# Altium integrated library Renesas Microprocessor SuperH.IntLib: 433 symbols (part 39 of 62)
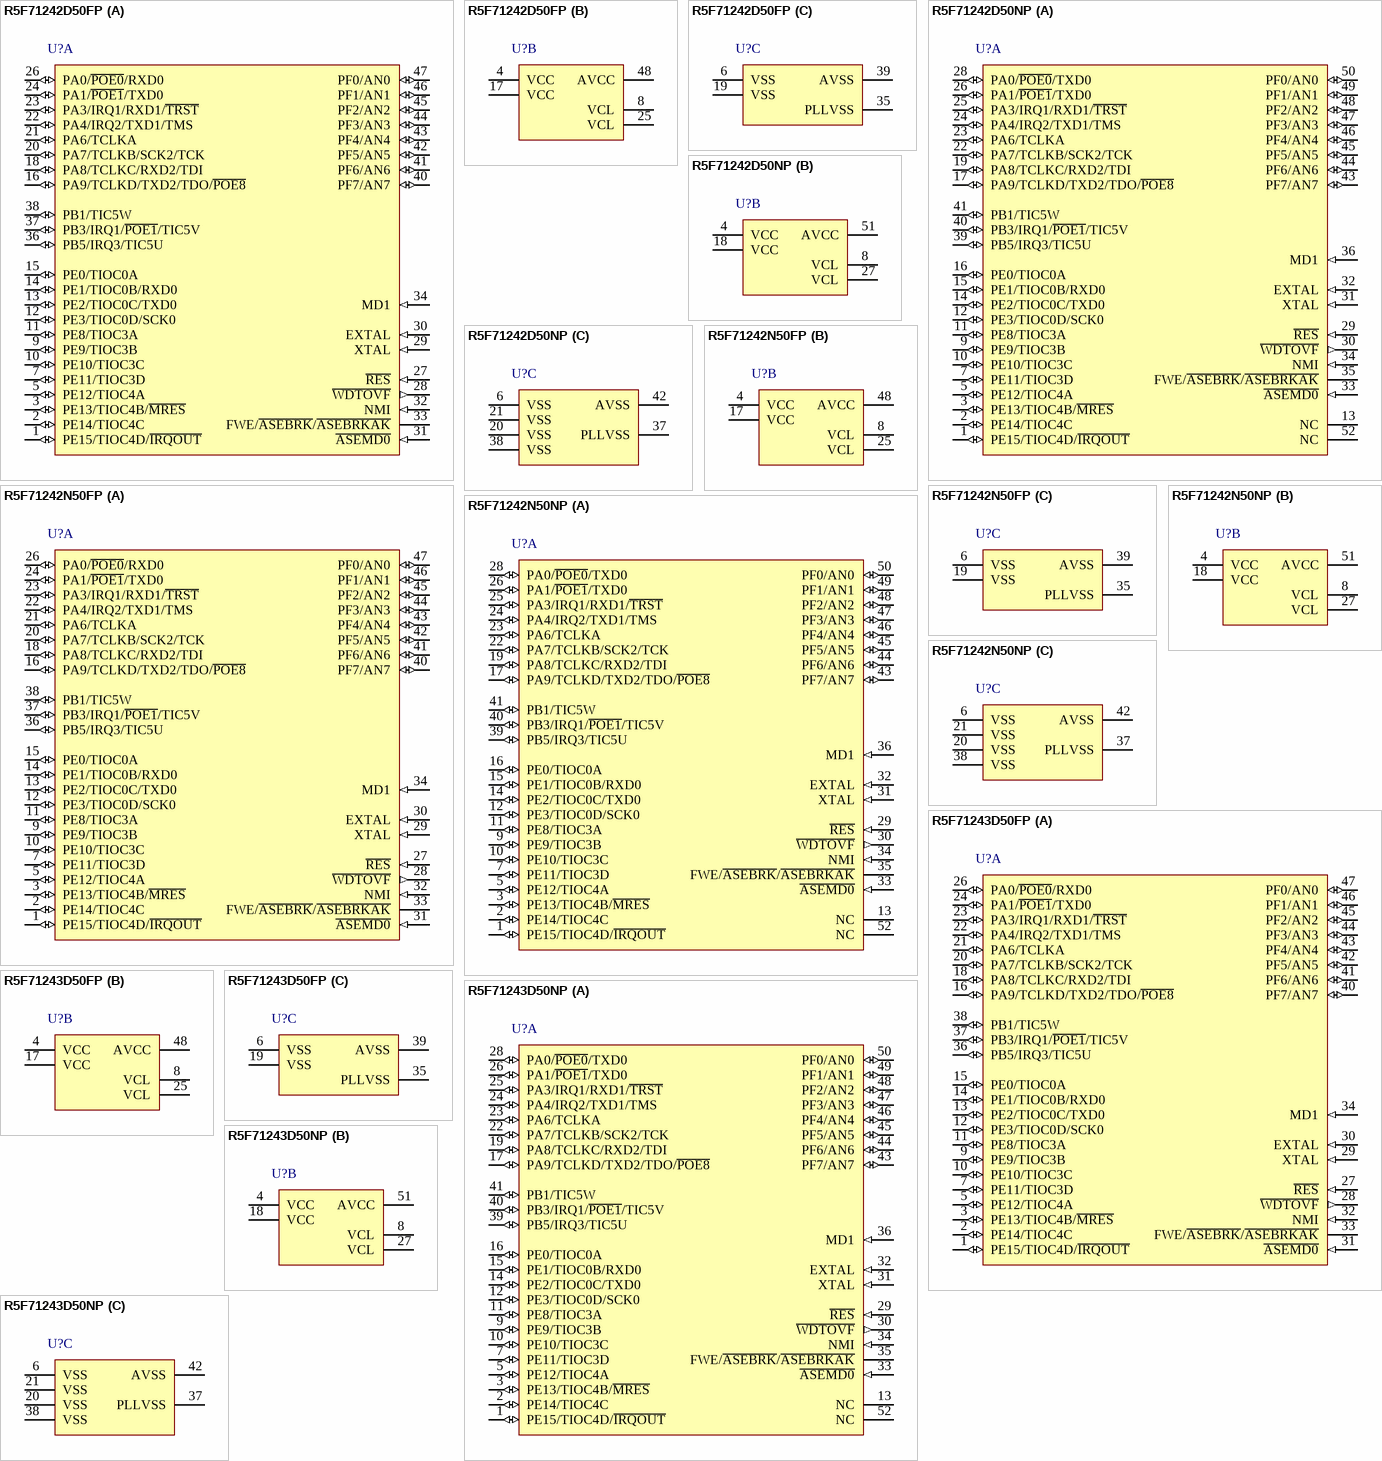
[diagram p305: symbols R5F71242D50FP to R5F71243D50NP]

## R5F71242D50NP
designator U?
32-Bit RISC Microcomputer, SH7125 Series, SH-2 core, 50MHz, 64K ROM, 8K RAM, PVQN0052LE-A Package, -40 to 85°C; Published: 28-Aug-2009; DatasheetVersion: Rev.5.00, Mar-2009; PackageVersion: Jun-2008; PackageReference: PVQN0052LE-A; Publisher: Altium Limited; PackageDescription: 52-Pin Plastic Very Thin QFN, 7 x 7 x 0.89 mm Body, 0.4 mm Pitch; Code_JEITA: P-VQFN52-7x7-0.40; ComponentLink1Description: Manufacturer Link; ComponentLink1URL: http://www.renesas.com/fmwk.jsp?cnt=sh7125_root.jsp&fp=/products/mpumcu/superh_family/shtiny_series/sh7125_group/; ComponentLink2Description: Datasheet; ComponentLink2URL: http://documentation.renesas.com/eng/products/mpumcu/rej09b0243_sh7125_7124hm.pdf; ComponentLink3Description: Packaging Specification; ComponentLink3URL: http://sg.renesas.com/media/products/common_info/package/pdf/ic/code/pvqn0052le_a.pdf
footprint PVQN0052LE-A_N (QFN, 52-Leads, Body 7x7 mm, Pitch 0.4mm, IPC Medium Density)
footprint PVQN0052LE-A_L (QFN, 52-Leads, Body 7x7 mm, Pitch 0.4mm, IPC High Density)
footprint PVQN0052LE-A_M (QFN, 52-Leads, Body 7x7 mm, Pitch 0.4mm, IPC Low Density)
part A pins: 1 PE15/TIOC4D/~{IRQOUT} (io), 2 PE14/TIOC4C (io), 3 PE13/TIOC4B/~{MRES} (io), 5 PE12/TIOC4A (io), 7 PE11/TIOC3D (io), 9 PE9/TIOC3B (io), 10 PE10/TIOC3C (io), 11 PE8/TIOC3A (io), 12 PE3/TIOC0D/SCK0 (io), 13 NC, 14 PE2/TIOC0C/TXD0 (io), 15 PE1/TIOC0B/RXD0 (io), 16 PE0/TIOC0A (io), 17 PA9/TCLKD/TXD2/TDO/~{POE8} (io), 19 PA8/TCLKC/RXD2/TDI (io), 22 PA7/TCLKB/SCK2/TCK (io), 23 PA6/TCLKA (io), 24 PA4/IRQ2/TXD1/TMS (io), 25 PA3/IRQ1/RXD1/~{TRST} (io), 26 PA1/~{POE1}/TXD0 (io), 28 PA0/~{POE0}/TXD0 (io), 29 ~{RES} (in), 30 ~{WDTOVF} (out), 31 XTAL (in), 32 EXTAL (in), 33 ~{ASEMD0} (in), 34 NMI (in), 35 FWE/~{ASEBRK}/~{ASEBRKAK}, 36 MD1 (in), 39 PB5/IRQ3/TIC5U (io), 40 PB3/IRQ1/~{POE1}/TIC5V (io), 41 PB1/TIC5W (io), 43 PF7/AN7 (io), 44 PF6/AN6 (io), 45 PF5/AN5 (io), 46 PF4/AN4 (io), 47 PF3/AN3 (io), 48 PF2/AN2 (io), 49 PF1/AN1 (io), 50 PF0/AN0 (io), 52 NC
part B pins: 4 VCC (power), 8 VCL, 18 VCC (power), 27 VCL, 51 AVCC (power)
part C pins: 6 VSS (power), 20 VSS (power), 21 VSS (power), 37 PLLVSS (power), 38 VSS (power), 42 AVSS (power)

## R5F71242N50FP
designator U?
32-Bit RISC Microcomputer, SH7125 Series, SH-2 core, 50MHz, 64K ROM, 8K RAM, PLQP0048JA-A (FP-48F) Package, -20 to 85°C; Published: 28-Aug-2009; DatasheetVersion: Rev.5.00, Mar-2009; PackageVersion: Sep-2005; PackageReference: PLQP0048JA-A; Publisher: Altium Limited; PackageDescription: 48-Pin Plastic Low Profile QFP, 10 x 10 x 1.45 mm Body, 0.65 mm Pitch; Code_JEITA: P-LQFP48-10x10-0.65; ComponentLink1Description: Manufacturer Link; ComponentLink1URL: http://www.renesas.com/fmwk.jsp?cnt=sh7125_root.jsp&fp=/products/mpumcu/superh_family/shtiny_series/sh7125_group/; ComponentLink2Description: Datasheet; ComponentLink2URL: http://documentation.renesas.com/eng/products/mpumcu/rej09b0243_sh7125_7124hm.pdf; ComponentLink3Description: Packaging Specification; ComponentLink3URL: http://sg.renesas.com/media/products/common_info/package/pdf/ic/code/plqp0048ja_a.pdf
footprint PLQP0048JA-A_N (QFP, 48-Leads, Body 10x10mm, Pitch 0.65mm, IPC Medium Density)
footprint PLQP0048JA-A_L (QFP, 48-Leads, Body 10x10mm, Pitch 0.65mm, IPC High Density)
footprint PLQP0048JA-A_M (QFP, 48-Leads, Body 10x10mm, Pitch 0.65mm, IPC Low Density)
part A pins: 1 PE15/TIOC4D/~{IRQOUT} (io), 2 PE14/TIOC4C (io), 3 PE13/TIOC4B/~{MRES} (io), 5 PE12/TIOC4A (io), 7 PE11/TIOC3D (io), 9 PE9/TIOC3B (io), 10 PE10/TIOC3C (io), 11 PE8/TIOC3A (io), 12 PE3/TIOC0D/SCK0 (io), 13 PE2/TIOC0C/TXD0 (io), 14 PE1/TIOC0B/RXD0 (io), 15 PE0/TIOC0A (io), 16 PA9/TCLKD/TXD2/TDO/~{POE8} (io), 18 PA8/TCLKC/RXD2/TDI (io), 20 PA7/TCLKB/SCK2/TCK (io), 21 PA6/TCLKA (io), 22 PA4/IRQ2/TXD1/TMS (io), 23 PA3/IRQ1/RXD1/~{TRST} (io), 24 PA1/~{POE1}/TXD0 (io), 26 PA0/~{POE0}/RXD0 (io), 27 ~{RES} (in), 28 ~{WDTOVF} (out), 29 XTAL (in), 30 EXTAL (in), 31 ~{ASEMD0} (in), 32 NMI (in), 33 FWE/~{ASEBRK}/~{ASEBRKAK}, 34 MD1 (in), 36 PB5/IRQ3/TIC5U (io), 37 PB3/IRQ1/~{POE1}/TIC5V (io), 38 PB1/TIC5W (io), 40 PF7/AN7 (io), 41 PF6/AN6 (io), 42 PF5/AN5 (io), 43 PF4/AN4 (io), 44 PF3/AN3 (io), 45 PF2/AN2 (io), 46 PF1/AN1 (io), 47 PF0/AN0 (io)
part B pins: 4 VCC (power), 8 VCL, 17 VCC (power), 25 VCL, 48 AVCC (power)
part C pins: 6 VSS (power), 19 VSS (power), 35 PLLVSS (power), 39 AVSS (power)

## R5F71242N50NP
designator U?
32-Bit RISC Microcomputer, SH7125 Series, SH-2 core, 50MHz, 64K ROM, 8K RAM, PVQN0052LE-A Package, -20 to 85°C; Published: 28-Aug-2009; DatasheetVersion: Rev.5.00, Mar-2009; PackageVersion: Jun-2008; PackageReference: PVQN0052LE-A; Publisher: Altium Limited; PackageDescription: 52-Pin Plastic Very Thin QFN, 7 x 7 x 0.89 mm Body, 0.4 mm Pitch; Code_JEITA: P-VQFN52-7x7-0.40; ComponentLink1Description: Manufacturer Link; ComponentLink1URL: http://www.renesas.com/fmwk.jsp?cnt=sh7125_root.jsp&fp=/products/mpumcu/superh_family/shtiny_series/sh7125_group/; ComponentLink2Description: Datasheet; ComponentLink2URL: http://documentation.renesas.com/eng/products/mpumcu/rej09b0243_sh7125_7124hm.pdf; ComponentLink3Description: Packaging Specification; ComponentLink3URL: http://sg.renesas.com/media/products/common_info/package/pdf/ic/code/pvqn0052le_a.pdf
footprint PVQN0052LE-A_N (QFN, 52-Leads, Body 7x7 mm, Pitch 0.4mm, IPC Medium Density)
footprint PVQN0052LE-A_L (QFN, 52-Leads, Body 7x7 mm, Pitch 0.4mm, IPC High Density)
footprint PVQN0052LE-A_M (QFN, 52-Leads, Body 7x7 mm, Pitch 0.4mm, IPC Low Density)
part A pins: 1 PE15/TIOC4D/~{IRQOUT} (io), 2 PE14/TIOC4C (io), 3 PE13/TIOC4B/~{MRES} (io), 5 PE12/TIOC4A (io), 7 PE11/TIOC3D (io), 9 PE9/TIOC3B (io), 10 PE10/TIOC3C (io), 11 PE8/TIOC3A (io), 12 PE3/TIOC0D/SCK0 (io), 13 NC, 14 PE2/TIOC0C/TXD0 (io), 15 PE1/TIOC0B/RXD0 (io), 16 PE0/TIOC0A (io), 17 PA9/TCLKD/TXD2/TDO/~{POE8} (io), 19 PA8/TCLKC/RXD2/TDI (io), 22 PA7/TCLKB/SCK2/TCK (io), 23 PA6/TCLKA (io), 24 PA4/IRQ2/TXD1/TMS (io), 25 PA3/IRQ1/RXD1/~{TRST} (io), 26 PA1/~{POE1}/TXD0 (io), 28 PA0/~{POE0}/TXD0 (io), 29 ~{RES} (in), 30 ~{WDTOVF} (out), 31 XTAL (in), 32 EXTAL (in), 33 ~{ASEMD0} (in), 34 NMI (in), 35 FWE/~{ASEBRK}/~{ASEBRKAK}, 36 MD1 (in), 39 PB5/IRQ3/TIC5U (io), 40 PB3/IRQ1/~{POE1}/TIC5V (io), 41 PB1/TIC5W (io), 43 PF7/AN7 (io), 44 PF6/AN6 (io), 45 PF5/AN5 (io), 46 PF4/AN4 (io), 47 PF3/AN3 (io), 48 PF2/AN2 (io), 49 PF1/AN1 (io), 50 PF0/AN0 (io), 52 NC
part B pins: 4 VCC (power), 8 VCL, 18 VCC (power), 27 VCL, 51 AVCC (power)
part C pins: 6 VSS (power), 20 VSS (power), 21 VSS (power), 37 PLLVSS (power), 38 VSS (power), 42 AVSS (power)

## R5F71243D50FP
designator U?
32-Bit RISC Microcomputer, SH7125 Series, SH-2 core, 50MHz, 128K ROM, 8K RAM, PLQP0048JA-A (FP-48F) Package, -40 to 85°C; Published: 28-Aug-2009; DatasheetVersion: Rev.5.00, Mar-2009; PackageVersion: Sep-2005; PackageReference: PLQP0048JA-A; Publisher: Altium Limited; PackageDescription: 48-Pin Plastic Low Profile QFP, 10 x 10 x 1.45 mm Body, 0.65 mm Pitch; Code_JEITA: P-LQFP48-10x10-0.65; ComponentLink1Description: Manufacturer Link; ComponentLink1URL: http://www.renesas.com/fmwk.jsp?cnt=sh7125_root.jsp&fp=/products/mpumcu/superh_family/shtiny_series/sh7125_group/; ComponentLink2Description: Datasheet; ComponentLink2URL: http://documentation.renesas.com/eng/products/mpumcu/rej09b0243_sh7125_7124hm.pdf; ComponentLink3Description: Packaging Specification; ComponentLink3URL: http://sg.renesas.com/media/products/common_info/package/pdf/ic/code/plqp0048ja_a.pdf
footprint PLQP0048JA-A_N (QFP, 48-Leads, Body 10x10mm, Pitch 0.65mm, IPC Medium Density)
footprint PLQP0048JA-A_L (QFP, 48-Leads, Body 10x10mm, Pitch 0.65mm, IPC High Density)
footprint PLQP0048JA-A_M (QFP, 48-Leads, Body 10x10mm, Pitch 0.65mm, IPC Low Density)
part A pins: 1 PE15/TIOC4D/~{IRQOUT} (io), 2 PE14/TIOC4C (io), 3 PE13/TIOC4B/~{MRES} (io), 5 PE12/TIOC4A (io), 7 PE11/TIOC3D (io), 9 PE9/TIOC3B (io), 10 PE10/TIOC3C (io), 11 PE8/TIOC3A (io), 12 PE3/TIOC0D/SCK0 (io), 13 PE2/TIOC0C/TXD0 (io), 14 PE1/TIOC0B/RXD0 (io), 15 PE0/TIOC0A (io), 16 PA9/TCLKD/TXD2/TDO/~{POE8} (io), 18 PA8/TCLKC/RXD2/TDI (io), 20 PA7/TCLKB/SCK2/TCK (io), 21 PA6/TCLKA (io), 22 PA4/IRQ2/TXD1/TMS (io), 23 PA3/IRQ1/RXD1/~{TRST} (io), 24 PA1/~{POE1}/TXD0 (io), 26 PA0/~{POE0}/RXD0 (io), 27 ~{RES} (in), 28 ~{WDTOVF} (out), 29 XTAL (in), 30 EXTAL (in), 31 ~{ASEMD0} (in), 32 NMI (in), 33 FWE/~{ASEBRK}/~{ASEBRKAK}, 34 MD1 (in), 36 PB5/IRQ3/TIC5U (io), 37 PB3/IRQ1/~{POE1}/TIC5V (io), 38 PB1/TIC5W (io), 40 PF7/AN7 (io), 41 PF6/AN6 (io), 42 PF5/AN5 (io), 43 PF4/AN4 (io), 44 PF3/AN3 (io), 45 PF2/AN2 (io), 46 PF1/AN1 (io), 47 PF0/AN0 (io)
part B pins: 4 VCC (power), 8 VCL, 17 VCC (power), 25 VCL, 48 AVCC (power)
part C pins: 6 VSS (power), 19 VSS (power), 35 PLLVSS (power), 39 AVSS (power)

## R5F71243D50NP
designator U?
32-Bit RISC Microcomputer, SH7125 Series, SH-2 core, 50MHz, 128K ROM, 8K RAM, PVQN0052LE-A Package, -40 to 85°C; Published: 28-Aug-2009; DatasheetVersion: Rev.5.00, Mar-2009; PackageVersion: Jun-2008; PackageReference: PVQN0052LE-A; Publisher: Altium Limited; PackageDescription: 52-Pin Plastic Very Thin QFN, 7 x 7 x 0.89 mm Body, 0.4 mm Pitch; Code_JEITA: P-VQFN52-7x7-0.40; ComponentLink1Description: Manufacturer Link; ComponentLink1URL: http://www.renesas.com/fmwk.jsp?cnt=sh7125_root.jsp&fp=/products/mpumcu/superh_family/shtiny_series/sh7125_group/; ComponentLink2Description: Datasheet; ComponentLink2URL: http://documentation.renesas.com/eng/products/mpumcu/rej09b0243_sh7125_7124hm.pdf; ComponentLink3Description: Packaging Specification; ComponentLink3URL: http://sg.renesas.com/media/products/common_info/package/pdf/ic/code/pvqn0052le_a.pdf
footprint PVQN0052LE-A_N (QFN, 52-Leads, Body 7x7 mm, Pitch 0.4mm, IPC Medium Density)
footprint PVQN0052LE-A_L (QFN, 52-Leads, Body 7x7 mm, Pitch 0.4mm, IPC High Density)
footprint PVQN0052LE-A_M (QFN, 52-Leads, Body 7x7 mm, Pitch 0.4mm, IPC Low Density)
part A pins: 1 PE15/TIOC4D/~{IRQOUT} (io), 2 PE14/TIOC4C (io), 3 PE13/TIOC4B/~{MRES} (io), 5 PE12/TIOC4A (io), 7 PE11/TIOC3D (io), 9 PE9/TIOC3B (io), 10 PE10/TIOC3C (io), 11 PE8/TIOC3A (io), 12 PE3/TIOC0D/SCK0 (io), 13 NC, 14 PE2/TIOC0C/TXD0 (io), 15 PE1/TIOC0B/RXD0 (io), 16 PE0/TIOC0A (io), 17 PA9/TCLKD/TXD2/TDO/~{POE8} (io), 19 PA8/TCLKC/RXD2/TDI (io), 22 PA7/TCLKB/SCK2/TCK (io), 23 PA6/TCLKA (io), 24 PA4/IRQ2/TXD1/TMS (io), 25 PA3/IRQ1/RXD1/~{TRST} (io), 26 PA1/~{POE1}/TXD0 (io), 28 PA0/~{POE0}/TXD0 (io), 29 ~{RES} (in), 30 ~{WDTOVF} (out), 31 XTAL (in), 32 EXTAL (in), 33 ~{ASEMD0} (in), 34 NMI (in), 35 FWE/~{ASEBRK}/~{ASEBRKAK}, 36 MD1 (in), 39 PB5/IRQ3/TIC5U (io), 40 PB3/IRQ1/~{POE1}/TIC5V (io), 41 PB1/TIC5W (io), 43 PF7/AN7 (io), 44 PF6/AN6 (io), 45 PF5/AN5 (io), 46 PF4/AN4 (io), 47 PF3/AN3 (io), 48 PF2/AN2 (io), 49 PF1/AN1 (io), 50 PF0/AN0 (io), 52 NC
part B pins: 4 VCC (power), 8 VCL, 18 VCC (power), 27 VCL, 51 AVCC (power)
part C pins: 6 VSS (power), 20 VSS (power), 21 VSS (power), 37 PLLVSS (power), 38 VSS (power), 42 AVSS (power)

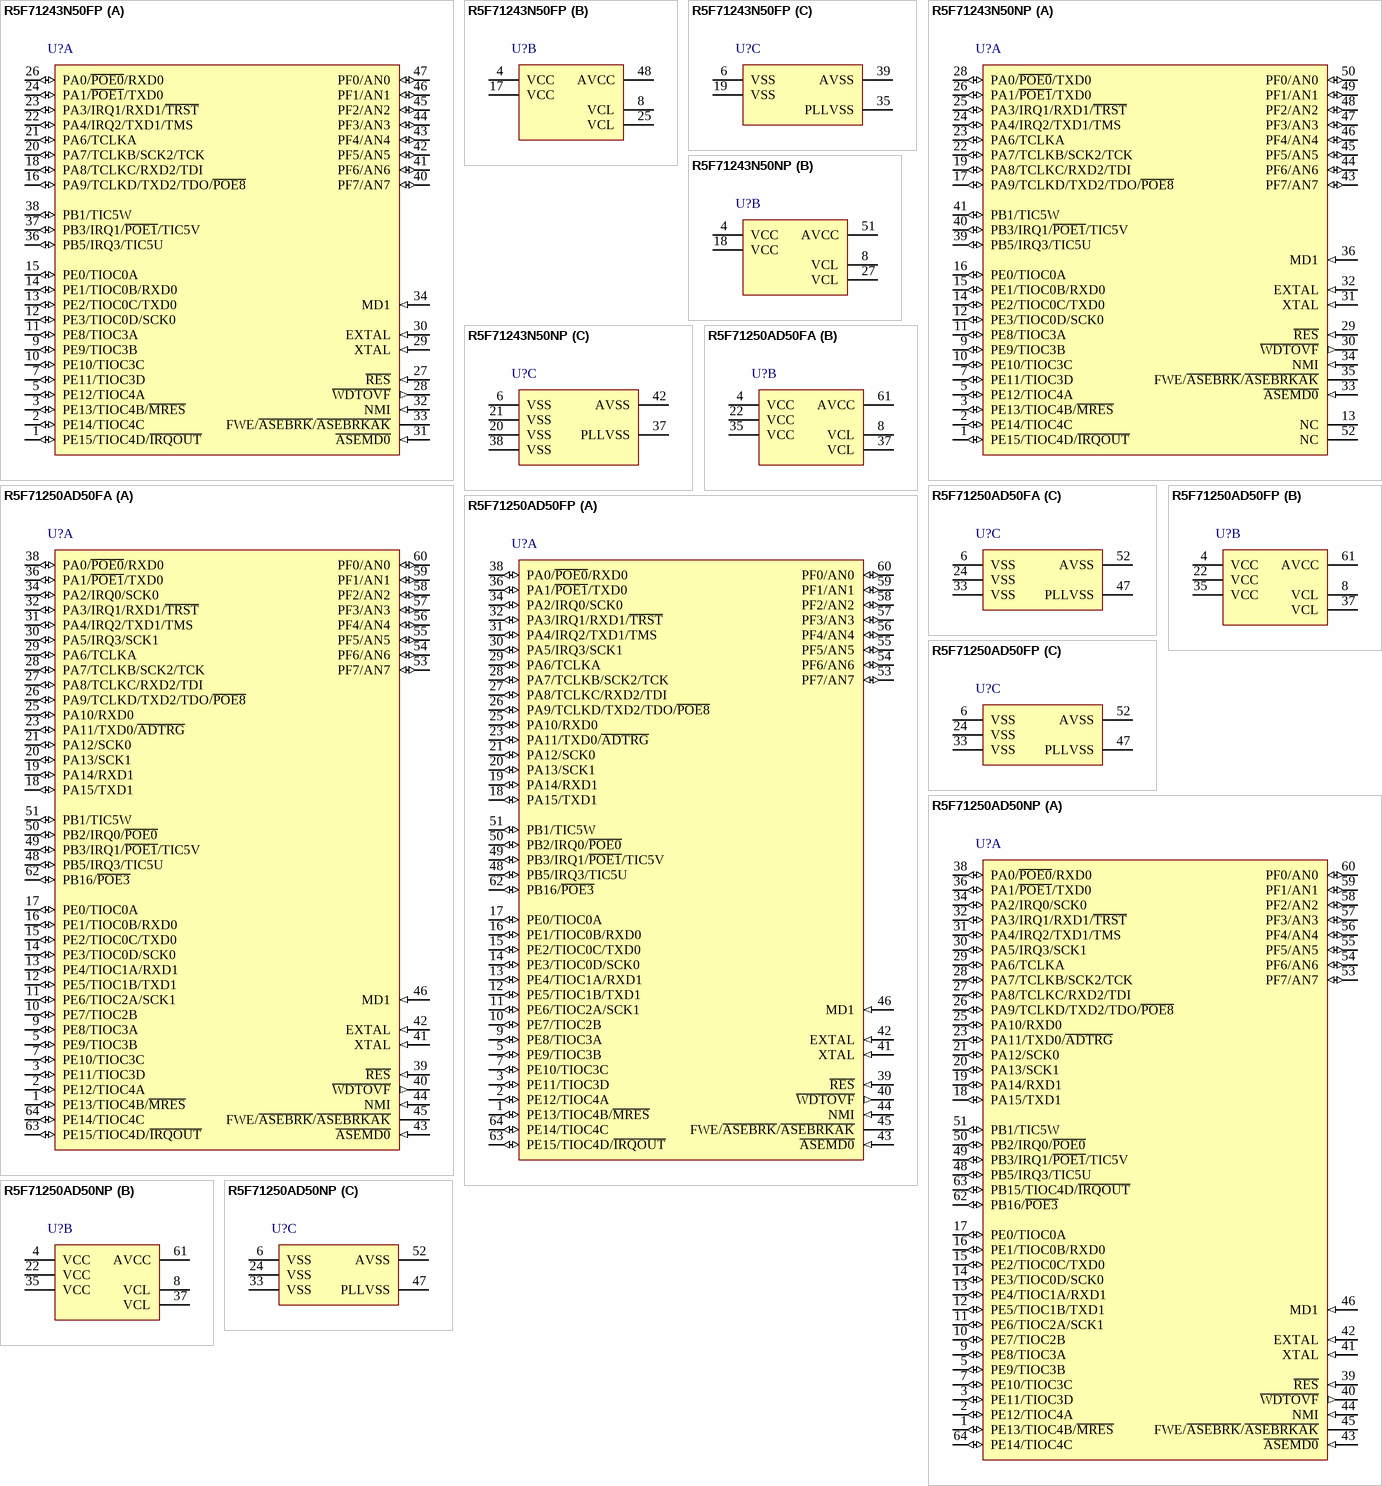
[diagram p142: symbols R5F71243N50FP to R5F71250AD50NP]

## R5F71243N50FP
designator U?
32-Bit RISC Microcomputer, SH7125 Series, SH-2 core, 50MHz, 128K ROM, 8K RAM, PLQP0048JA-A (FP-48F) Package, -20 to 85°C; Published: 28-Aug-2009; DatasheetVersion: Rev.5.00, Mar-2009; PackageVersion: Sep-2005; PackageReference: PLQP0048JA-A; Publisher: Altium Limited; PackageDescription: 48-Pin Plastic Low Profile QFP, 10 x 10 x 1.45 mm Body, 0.65 mm Pitch; Code_JEITA: P-LQFP48-10x10-0.65; ComponentLink1Description: Manufacturer Link; ComponentLink1URL: http://www.renesas.com/fmwk.jsp?cnt=sh7125_root.jsp&fp=/products/mpumcu/superh_family/shtiny_series/sh7125_group/; ComponentLink2Description: Datasheet; ComponentLink2URL: http://documentation.renesas.com/eng/products/mpumcu/rej09b0243_sh7125_7124hm.pdf; ComponentLink3Description: Packaging Specification; ComponentLink3URL: http://sg.renesas.com/media/products/common_info/package/pdf/ic/code/plqp0048ja_a.pdf
footprint PLQP0048JA-A_N (QFP, 48-Leads, Body 10x10mm, Pitch 0.65mm, IPC Medium Density)
footprint PLQP0048JA-A_L (QFP, 48-Leads, Body 10x10mm, Pitch 0.65mm, IPC High Density)
footprint PLQP0048JA-A_M (QFP, 48-Leads, Body 10x10mm, Pitch 0.65mm, IPC Low Density)
part A pins: 1 PE15/TIOC4D/~{IRQOUT} (io), 2 PE14/TIOC4C (io), 3 PE13/TIOC4B/~{MRES} (io), 5 PE12/TIOC4A (io), 7 PE11/TIOC3D (io), 9 PE9/TIOC3B (io), 10 PE10/TIOC3C (io), 11 PE8/TIOC3A (io), 12 PE3/TIOC0D/SCK0 (io), 13 PE2/TIOC0C/TXD0 (io), 14 PE1/TIOC0B/RXD0 (io), 15 PE0/TIOC0A (io), 16 PA9/TCLKD/TXD2/TDO/~{POE8} (io), 18 PA8/TCLKC/RXD2/TDI (io), 20 PA7/TCLKB/SCK2/TCK (io), 21 PA6/TCLKA (io), 22 PA4/IRQ2/TXD1/TMS (io), 23 PA3/IRQ1/RXD1/~{TRST} (io), 24 PA1/~{POE1}/TXD0 (io), 26 PA0/~{POE0}/RXD0 (io), 27 ~{RES} (in), 28 ~{WDTOVF} (out), 29 XTAL (in), 30 EXTAL (in), 31 ~{ASEMD0} (in), 32 NMI (in), 33 FWE/~{ASEBRK}/~{ASEBRKAK}, 34 MD1 (in), 36 PB5/IRQ3/TIC5U (io), 37 PB3/IRQ1/~{POE1}/TIC5V (io), 38 PB1/TIC5W (io), 40 PF7/AN7 (io), 41 PF6/AN6 (io), 42 PF5/AN5 (io), 43 PF4/AN4 (io), 44 PF3/AN3 (io), 45 PF2/AN2 (io), 46 PF1/AN1 (io), 47 PF0/AN0 (io)
part B pins: 4 VCC (power), 8 VCL, 17 VCC (power), 25 VCL, 48 AVCC (power)
part C pins: 6 VSS (power), 19 VSS (power), 35 PLLVSS (power), 39 AVSS (power)

## R5F71243N50NP
designator U?
32-Bit RISC Microcomputer, SH7125 Series, SH-2 core, 50MHz, 128K ROM, 8K RAM, PVQN0052LE-A Package, -20 to 85°C; Published: 28-Aug-2009; DatasheetVersion: Rev.5.00, Mar-2009; PackageVersion: Jun-2008; PackageReference: PVQN0052LE-A; Publisher: Altium Limited; PackageDescription: 52-Pin Plastic Very Thin QFN, 7 x 7 x 0.89 mm Body, 0.4 mm Pitch; Code_JEITA: P-VQFN52-7x7-0.40; ComponentLink1Description: Manufacturer Link; ComponentLink1URL: http://www.renesas.com/fmwk.jsp?cnt=sh7125_root.jsp&fp=/products/mpumcu/superh_family/shtiny_series/sh7125_group/; ComponentLink2Description: Datasheet; ComponentLink2URL: http://documentation.renesas.com/eng/products/mpumcu/rej09b0243_sh7125_7124hm.pdf; ComponentLink3Description: Packaging Specification; ComponentLink3URL: http://sg.renesas.com/media/products/common_info/package/pdf/ic/code/pvqn0052le_a.pdf
footprint PVQN0052LE-A_N (QFN, 52-Leads, Body 7x7 mm, Pitch 0.4mm, IPC Medium Density)
footprint PVQN0052LE-A_L (QFN, 52-Leads, Body 7x7 mm, Pitch 0.4mm, IPC High Density)
footprint PVQN0052LE-A_M (QFN, 52-Leads, Body 7x7 mm, Pitch 0.4mm, IPC Low Density)
part A pins: 1 PE15/TIOC4D/~{IRQOUT} (io), 2 PE14/TIOC4C (io), 3 PE13/TIOC4B/~{MRES} (io), 5 PE12/TIOC4A (io), 7 PE11/TIOC3D (io), 9 PE9/TIOC3B (io), 10 PE10/TIOC3C (io), 11 PE8/TIOC3A (io), 12 PE3/TIOC0D/SCK0 (io), 13 NC, 14 PE2/TIOC0C/TXD0 (io), 15 PE1/TIOC0B/RXD0 (io), 16 PE0/TIOC0A (io), 17 PA9/TCLKD/TXD2/TDO/~{POE8} (io), 19 PA8/TCLKC/RXD2/TDI (io), 22 PA7/TCLKB/SCK2/TCK (io), 23 PA6/TCLKA (io), 24 PA4/IRQ2/TXD1/TMS (io), 25 PA3/IRQ1/RXD1/~{TRST} (io), 26 PA1/~{POE1}/TXD0 (io), 28 PA0/~{POE0}/TXD0 (io), 29 ~{RES} (in), 30 ~{WDTOVF} (out), 31 XTAL (in), 32 EXTAL (in), 33 ~{ASEMD0} (in), 34 NMI (in), 35 FWE/~{ASEBRK}/~{ASEBRKAK}, 36 MD1 (in), 39 PB5/IRQ3/TIC5U (io), 40 PB3/IRQ1/~{POE1}/TIC5V (io), 41 PB1/TIC5W (io), 43 PF7/AN7 (io), 44 PF6/AN6 (io), 45 PF5/AN5 (io), 46 PF4/AN4 (io), 47 PF3/AN3 (io), 48 PF2/AN2 (io), 49 PF1/AN1 (io), 50 PF0/AN0 (io), 52 NC
part B pins: 4 VCC (power), 8 VCL, 18 VCC (power), 27 VCL, 51 AVCC (power)
part C pins: 6 VSS (power), 20 VSS (power), 21 VSS (power), 37 PLLVSS (power), 38 VSS (power), 42 AVSS (power)

## R5F71250AD50FA
designator U?
32-Bit RISC Microcomputer, SH7125 Series, SH-2 core, 50MHz, 16K ROM, 4K RAM, PRQP0064GC-A (FP-64HV) Package, -40 to 85°C; Published: 28-Aug-2009; DatasheetVersion: Rev.5.00, Mar-2009; PackageVersion: Sep-2005; PackageReference: PRQP0064GC-A; Publisher: Altium Limited; PackageDescription: 64-Pin Plastic Quad Flat Pack, 14 x 14 x 2.7 mm Body, 0.8 mm Pitch; Code_JEITA: P-QFP64-14x14-0.80; ComponentLink1Description: Manufacturer Link; ComponentLink1URL: http://www.renesas.com/fmwk.jsp?cnt=sh7125_root.jsp&fp=/products/mpumcu/superh_family/shtiny_series/sh7125_group/; ComponentLink2Description: Datasheet; ComponentLink2URL: http://documentation.renesas.com/eng/products/mpumcu/rej09b0243_sh7125_7124hm.pdf; ComponentLink3Description: Packaging Specification; ComponentLink3URL: http://sg.renesas.com/media/products/common_info/package/pdf/ic/code/prqp0064gc_a.pdf
footprint PRQP0064GC-A_N (QFP, 64-Leads, Body 14x14mm, Pitch 0.8mm, IPC Medium Density)
footprint PRQP0064GC-A_L (QFP, 64-Leads, Body 14x14mm, Pitch 0.8mm, IPC High Density)
footprint PRQP0064GC-A_M (QFP, 64-Leads, Body 14x14mm, Pitch 0.8mm, IPC Low Density)
part A pins: 1 PE13/TIOC4B/~{MRES} (io), 2 PE12/TIOC4A (io), 3 PE11/TIOC3D (io), 5 PE9/TIOC3B (io), 7 PE10/TIOC3C (io), 9 PE8/TIOC3A (io), 10 PE7/TIOC2B (io), 11 PE6/TIOC2A/SCK1 (io), 12 PE5/TIOC1B/TXD1 (io), 13 PE4/TIOC1A/RXD1 (io), 14 PE3/TIOC0D/SCK0 (io), 15 PE2/TIOC0C/TXD0 (io), 16 PE1/TIOC0B/RXD0 (io), 17 PE0/TIOC0A (io), 18 PA15/TXD1 (io), 19 PA14/RXD1 (io), 20 PA13/SCK1 (io), 21 PA12/SCK0 (io), 23 PA11/TXD0/~{ADTRG} (io), 25 PA10/RXD0 (io), 26 PA9/TCLKD/TXD2/TDO/~{POE8} (io), 27 PA8/TCLKC/RXD2/TDI (io), 28 PA7/TCLKB/SCK2/TCK (io), 29 PA6/TCLKA (io), 30 PA5/IRQ3/SCK1 (io), 31 PA4/IRQ2/TXD1/TMS (io), 32 PA3/IRQ1/RXD1/~{TRST} (io), 34 PA2/IRQ0/SCK0 (io), 36 PA1/~{POE1}/TXD0 (io), 38 PA0/~{POE0}/RXD0 (io), 39 ~{RES} (in), 40 ~{WDTOVF} (out), 41 XTAL (in), 42 EXTAL (in), 43 ~{ASEMD0} (in), 44 NMI (in), 45 FWE/~{ASEBRK}/~{ASEBRKAK}, 46 MD1 (in), 48 PB5/IRQ3/TIC5U (io), 49 PB3/IRQ1/~{POE1}/TIC5V (io), 50 PB2/IRQ0/~{POE0} (io), 51 PB1/TIC5W (io), 53 PF7/AN7 (io), 54 PF6/AN6 (io), 55 PF5/AN5 (io), 56 PF4/AN4 (io), 57 PF3/AN3 (io), 58 PF2/AN2 (io), 59 PF1/AN1 (io), 60 PF0/AN0 (io), 62 PB16/~{POE3} (io), 63 PE15/TIOC4D/~{IRQOUT} (io), 64 PE14/TIOC4C (io)
part B pins: 4 VCC (power), 8 VCL, 22 VCC (power), 35 VCC (power), 37 VCL, 61 AVCC (power)
part C pins: 6 VSS (power), 24 VSS (power), 33 VSS (power), 47 PLLVSS (power), 52 AVSS (power)

## R5F71250AD50FP
designator U?
32-Bit RISC Microcomputer, SH7125 Series, SH-2 core, 50MHz, 16K ROM, 4K RAM, PLQP0064KB-A (FP-64K) Package, -40 to 85°C; Published: 28-Aug-2009; DatasheetVersion: Rev.5.00, Mar-2009; PackageVersion: Sep-2005; PackageReference: PLQP0064KB-A; Publisher: Altium Limited; PackageDescription: 64-Pin Plastic Low Profile QFP, 10 x 10 x 1.4 mm Body, 0.5 mm Pitch; Code_JEITA: P-LQFP64-10x10-0.50; Code_IPC: SQFP50P1200X1200-64; ComponentLink1Description: Manufacturer Link; ComponentLink1URL: http://www.renesas.com/fmwk.jsp?cnt=sh7125_root.jsp&fp=/products/mpumcu/superh_family/shtiny_series/sh7125_group/; ComponentLink2Description: Datasheet; ComponentLink2URL: http://documentation.renesas.com/eng/products/mpumcu/rej09b0243_sh7125_7124hm.pdf; ComponentLink3Description: Packaging Specification; ComponentLink3URL: http://sg.renesas.com/media/products/common_info/package/pdf/ic/code/plqp0064kb_a.pdf
footprint PLQP0064KB-A_N (Shrink QFP, 64-Leads, Body 10x10mm, Pitch 0.5mm, IPC Medium Density)
footprint PLQP0064KB-A_L (Shrink QFP, 64-Leads, Body 10x10mm, Pitch 0.5mm, IPC High Density)
footprint PLQP0064KB-A_M (Shrink QFP, 64-Leads, Body 10x10mm, Pitch 0.5mm, IPC Low Density)
part A pins: 1 PE13/TIOC4B/~{MRES} (io), 2 PE12/TIOC4A (io), 3 PE11/TIOC3D (io), 5 PE9/TIOC3B (io), 7 PE10/TIOC3C (io), 9 PE8/TIOC3A (io), 10 PE7/TIOC2B (io), 11 PE6/TIOC2A/SCK1 (io), 12 PE5/TIOC1B/TXD1 (io), 13 PE4/TIOC1A/RXD1 (io), 14 PE3/TIOC0D/SCK0 (io), 15 PE2/TIOC0C/TXD0 (io), 16 PE1/TIOC0B/RXD0 (io), 17 PE0/TIOC0A (io), 18 PA15/TXD1 (io), 19 PA14/RXD1 (io), 20 PA13/SCK1 (io), 21 PA12/SCK0 (io), 23 PA11/TXD0/~{ADTRG} (io), 25 PA10/RXD0 (io), 26 PA9/TCLKD/TXD2/TDO/~{POE8} (io), 27 PA8/TCLKC/RXD2/TDI (io), 28 PA7/TCLKB/SCK2/TCK (io), 29 PA6/TCLKA (io), 30 PA5/IRQ3/SCK1 (io), 31 PA4/IRQ2/TXD1/TMS (io), 32 PA3/IRQ1/RXD1/~{TRST} (io), 34 PA2/IRQ0/SCK0 (io), 36 PA1/~{POE1}/TXD0 (io), 38 PA0/~{POE0}/RXD0 (io), 39 ~{RES} (in), 40 ~{WDTOVF} (out), 41 XTAL (in), 42 EXTAL (in), 43 ~{ASEMD0} (in), 44 NMI (in), 45 FWE/~{ASEBRK}/~{ASEBRKAK}, 46 MD1 (in), 48 PB5/IRQ3/TIC5U (io), 49 PB3/IRQ1/~{POE1}/TIC5V (io), 50 PB2/IRQ0/~{POE0} (io), 51 PB1/TIC5W (io), 53 PF7/AN7 (io), 54 PF6/AN6 (io), 55 PF5/AN5 (io), 56 PF4/AN4 (io), 57 PF3/AN3 (io), 58 PF2/AN2 (io), 59 PF1/AN1 (io), 60 PF0/AN0 (io), 62 PB16/~{POE3} (io), 63 PE15/TIOC4D/~{IRQOUT} (io), 64 PE14/TIOC4C (io)
part B pins: 4 VCC (power), 8 VCL, 22 VCC (power), 35 VCC (power), 37 VCL, 61 AVCC (power)
part C pins: 6 VSS (power), 24 VSS (power), 33 VSS (power), 47 PLLVSS (power), 52 AVSS (power)

## R5F71250AD50NP
designator U?
32-Bit RISC Microcomputer, SH7125 Series, SH-2 core, 50MHz, 16K ROM, 4K RAM, PVQN0064LB-A (TNP-64BV) Package, -40 to 85°C; Published: 28-Aug-2009; DatasheetVersion: Rev.5.00, Mar-2009; PackageVersion: Jun-2008; PackageReference: PVQN0064LB-A; Publisher: Altium Limited; PackageDescription: 64-Pin Plastic Very Thin QFN, 8 x 8 X 0.89 mm Body, 0.4 mm Pitch; Code_JEITA: P-VQFN64-8x8-0.40; ComponentLink1Description: Manufacturer Link; ComponentLink1URL: http://www.renesas.com/fmwk.jsp?cnt=sh7125_root.jsp&fp=/products/mpumcu/superh_family/shtiny_series/sh7125_group/; ComponentLink2Description: Datasheet; ComponentLink2URL: http://documentation.renesas.com/eng/products/mpumcu/rej09b0243_sh7125_7124hm.pdf; ComponentLink3Description: Packaging Specification; ComponentLink3URL: http://sg.renesas.com/media/products/common_info/package/pdf/ic/code/pvqn0064lb_a.pdf
footprint PVQN0064LB-A_N (QFN, 64-Leads, Body 8x8 mm, Pitch 0.4mm, IPC Medium Density)
footprint PVQN0064LB-A_L (QFN, 64-Leads, Body 8x8 mm, Pitch 0.4mm, IPC High Density)
footprint PVQN0064LB-A_M (QFN, 64-Leads, Body 8x8 mm, Pitch 0.4mm, IPC Low Density)
part A pins: 1 PE13/TIOC4B/~{MRES} (io), 2 PE12/TIOC4A (io), 3 PE11/TIOC3D (io), 5 PE9/TIOC3B (io), 7 PE10/TIOC3C (io), 9 PE8/TIOC3A (io), 10 PE7/TIOC2B (io), 11 PE6/TIOC2A/SCK1 (io), 12 PE5/TIOC1B/TXD1 (io), 13 PE4/TIOC1A/RXD1 (io), 14 PE3/TIOC0D/SCK0 (io), 15 PE2/TIOC0C/TXD0 (io), 16 PE1/TIOC0B/RXD0 (io), 17 PE0/TIOC0A (io), 18 PA15/TXD1 (io), 19 PA14/RXD1 (io), 20 PA13/SCK1 (io), 21 PA12/SCK0 (io), 23 PA11/TXD0/~{ADTRG} (io), 25 PA10/RXD0 (io), 26 PA9/TCLKD/TXD2/TDO/~{POE8} (io), 27 PA8/TCLKC/RXD2/TDI (io), 28 PA7/TCLKB/SCK2/TCK (io), 29 PA6/TCLKA (io), 30 PA5/IRQ3/SCK1 (io), 31 PA4/IRQ2/TXD1/TMS (io), 32 PA3/IRQ1/RXD1/~{TRST} (io), 34 PA2/IRQ0/SCK0 (io), 36 PA1/~{POE1}/TXD0 (io), 38 PA0/~{POE0}/RXD0 (io), 39 ~{RES} (in), 40 ~{WDTOVF} (out), 41 XTAL (in), 42 EXTAL (in), 43 ~{ASEMD0} (in), 44 NMI (in), 45 FWE/~{ASEBRK}/~{ASEBRKAK}, 46 MD1 (in), 48 PB5/IRQ3/TIC5U (io), 49 PB3/IRQ1/~{POE1}/TIC5V (io), 50 PB2/IRQ0/~{POE0} (io), 51 PB1/TIC5W (io), 53 PF7/AN7 (io), 54 PF6/AN6 (io), 55 PF5/AN5 (io), 56 PF4/AN4 (io), 57 PF3/AN3 (io), 58 PF2/AN2 (io), 59 PF1/AN1 (io), 60 PF0/AN0 (io), 62 PB16/~{POE3} (io), 63 PB15/TIOC4D/~{IRQOUT} (io), 64 PE14/TIOC4C (io)
part B pins: 4 VCC (power), 8 VCL, 22 VCC (power), 35 VCC (power), 37 VCL, 61 AVCC (power)
part C pins: 6 VSS (power), 24 VSS (power), 33 VSS (power), 47 PLLVSS (power), 52 AVSS (power)

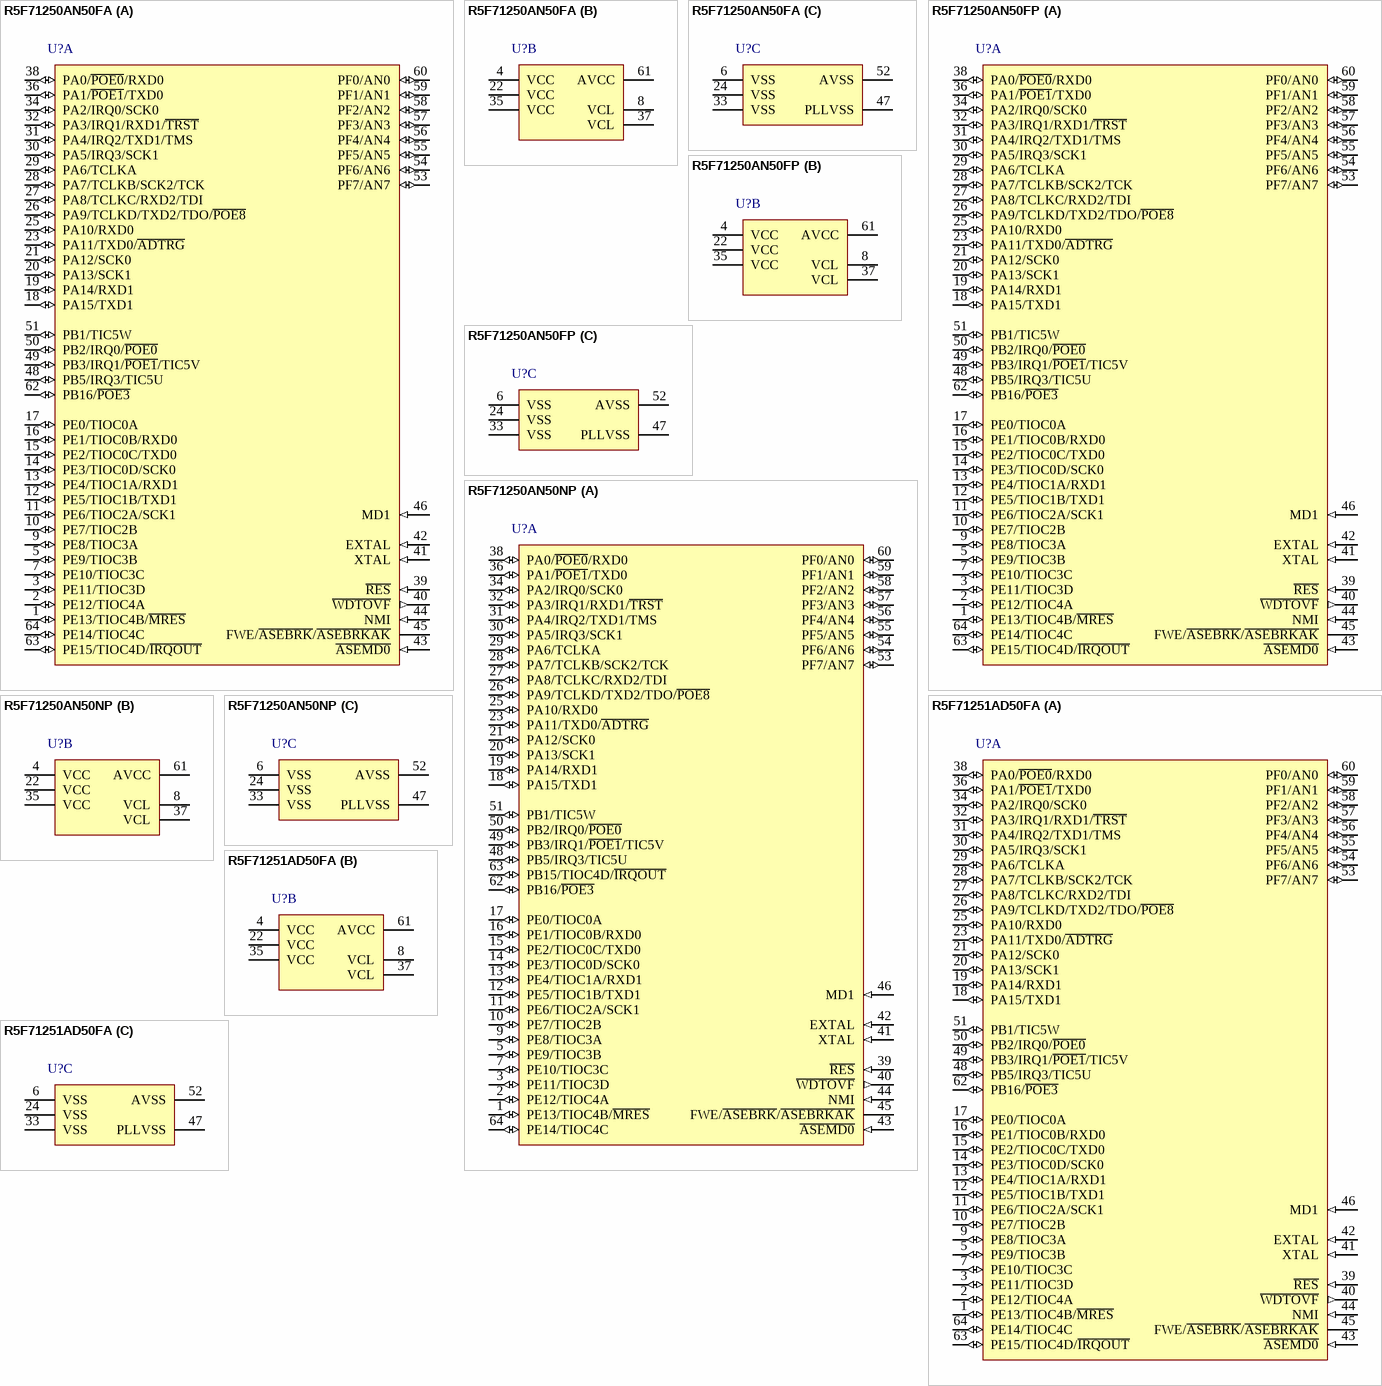
[diagram p143: symbols R5F71250AN50FA to R5F71251AD50FA]

## R5F71250AN50FA
designator U?
32-Bit RISC Microcomputer, SH7125 Series, SH-2 core, 50MHz, 16K ROM, 4K RAM, PRQP0064GC-A (FP-64HV) Package, -20 to 85°C; Published: 28-Aug-2009; DatasheetVersion: Rev.5.00, Mar-2009; PackageVersion: Sep-2005; PackageReference: PRQP0064GC-A; Publisher: Altium Limited; PackageDescription: 64-Pin Plastic Quad Flat Pack, 14 x 14 x 2.7 mm Body, 0.8 mm Pitch; Code_JEITA: P-QFP64-14x14-0.80; ComponentLink1Description: Manufacturer Link; ComponentLink1URL: http://www.renesas.com/fmwk.jsp?cnt=sh7125_root.jsp&fp=/products/mpumcu/superh_family/shtiny_series/sh7125_group/; ComponentLink2Description: Datasheet; ComponentLink2URL: http://documentation.renesas.com/eng/products/mpumcu/rej09b0243_sh7125_7124hm.pdf; ComponentLink3Description: Packaging Specification; ComponentLink3URL: http://sg.renesas.com/media/products/common_info/package/pdf/ic/code/prqp0064gc_a.pdf
footprint PRQP0064GC-A_N (QFP, 64-Leads, Body 14x14mm, Pitch 0.8mm, IPC Medium Density)
footprint PRQP0064GC-A_L (QFP, 64-Leads, Body 14x14mm, Pitch 0.8mm, IPC High Density)
footprint PRQP0064GC-A_M (QFP, 64-Leads, Body 14x14mm, Pitch 0.8mm, IPC Low Density)
part A pins: 1 PE13/TIOC4B/~{MRES} (io), 2 PE12/TIOC4A (io), 3 PE11/TIOC3D (io), 5 PE9/TIOC3B (io), 7 PE10/TIOC3C (io), 9 PE8/TIOC3A (io), 10 PE7/TIOC2B (io), 11 PE6/TIOC2A/SCK1 (io), 12 PE5/TIOC1B/TXD1 (io), 13 PE4/TIOC1A/RXD1 (io), 14 PE3/TIOC0D/SCK0 (io), 15 PE2/TIOC0C/TXD0 (io), 16 PE1/TIOC0B/RXD0 (io), 17 PE0/TIOC0A (io), 18 PA15/TXD1 (io), 19 PA14/RXD1 (io), 20 PA13/SCK1 (io), 21 PA12/SCK0 (io), 23 PA11/TXD0/~{ADTRG} (io), 25 PA10/RXD0 (io), 26 PA9/TCLKD/TXD2/TDO/~{POE8} (io), 27 PA8/TCLKC/RXD2/TDI (io), 28 PA7/TCLKB/SCK2/TCK (io), 29 PA6/TCLKA (io), 30 PA5/IRQ3/SCK1 (io), 31 PA4/IRQ2/TXD1/TMS (io), 32 PA3/IRQ1/RXD1/~{TRST} (io), 34 PA2/IRQ0/SCK0 (io), 36 PA1/~{POE1}/TXD0 (io), 38 PA0/~{POE0}/RXD0 (io), 39 ~{RES} (in), 40 ~{WDTOVF} (out), 41 XTAL (in), 42 EXTAL (in), 43 ~{ASEMD0} (in), 44 NMI (in), 45 FWE/~{ASEBRK}/~{ASEBRKAK}, 46 MD1 (in), 48 PB5/IRQ3/TIC5U (io), 49 PB3/IRQ1/~{POE1}/TIC5V (io), 50 PB2/IRQ0/~{POE0} (io), 51 PB1/TIC5W (io), 53 PF7/AN7 (io), 54 PF6/AN6 (io), 55 PF5/AN5 (io), 56 PF4/AN4 (io), 57 PF3/AN3 (io), 58 PF2/AN2 (io), 59 PF1/AN1 (io), 60 PF0/AN0 (io), 62 PB16/~{POE3} (io), 63 PE15/TIOC4D/~{IRQOUT} (io), 64 PE14/TIOC4C (io)
part B pins: 4 VCC (power), 8 VCL, 22 VCC (power), 35 VCC (power), 37 VCL, 61 AVCC (power)
part C pins: 6 VSS (power), 24 VSS (power), 33 VSS (power), 47 PLLVSS (power), 52 AVSS (power)

## R5F71250AN50FP
designator U?
32-Bit RISC Microcomputer, SH7125 Series, SH-2 core, 50MHz, 16K ROM, 4K RAM, PLQP0064KB-A (FP-64K) Package, -20 to 85°C; Published: 28-Aug-2009; DatasheetVersion: Rev.5.00, Mar-2009; PackageVersion: Sep-2005; PackageReference: PLQP0064KB-A; Publisher: Altium Limited; PackageDescription: 64-Pin Plastic Low Profile QFP, 10 x 10 x 1.4 mm Body, 0.5 mm Pitch; Code_JEITA: P-LQFP64-10x10-0.50; Code_IPC: SQFP50P1200X1200-64; ComponentLink1Description: Manufacturer Link; ComponentLink1URL: http://www.renesas.com/fmwk.jsp?cnt=sh7125_root.jsp&fp=/products/mpumcu/superh_family/shtiny_series/sh7125_group/; ComponentLink2Description: Datasheet; ComponentLink2URL: http://documentation.renesas.com/eng/products/mpumcu/rej09b0243_sh7125_7124hm.pdf; ComponentLink3Description: Packaging Specification; ComponentLink3URL: http://sg.renesas.com/media/products/common_info/package/pdf/ic/code/plqp0064kb_a.pdf
footprint PLQP0064KB-A_N (Shrink QFP, 64-Leads, Body 10x10mm, Pitch 0.5mm, IPC Medium Density)
footprint PLQP0064KB-A_L (Shrink QFP, 64-Leads, Body 10x10mm, Pitch 0.5mm, IPC High Density)
footprint PLQP0064KB-A_M (Shrink QFP, 64-Leads, Body 10x10mm, Pitch 0.5mm, IPC Low Density)
part A pins: 1 PE13/TIOC4B/~{MRES} (io), 2 PE12/TIOC4A (io), 3 PE11/TIOC3D (io), 5 PE9/TIOC3B (io), 7 PE10/TIOC3C (io), 9 PE8/TIOC3A (io), 10 PE7/TIOC2B (io), 11 PE6/TIOC2A/SCK1 (io), 12 PE5/TIOC1B/TXD1 (io), 13 PE4/TIOC1A/RXD1 (io), 14 PE3/TIOC0D/SCK0 (io), 15 PE2/TIOC0C/TXD0 (io), 16 PE1/TIOC0B/RXD0 (io), 17 PE0/TIOC0A (io), 18 PA15/TXD1 (io), 19 PA14/RXD1 (io), 20 PA13/SCK1 (io), 21 PA12/SCK0 (io), 23 PA11/TXD0/~{ADTRG} (io), 25 PA10/RXD0 (io), 26 PA9/TCLKD/TXD2/TDO/~{POE8} (io), 27 PA8/TCLKC/RXD2/TDI (io), 28 PA7/TCLKB/SCK2/TCK (io), 29 PA6/TCLKA (io), 30 PA5/IRQ3/SCK1 (io), 31 PA4/IRQ2/TXD1/TMS (io), 32 PA3/IRQ1/RXD1/~{TRST} (io), 34 PA2/IRQ0/SCK0 (io), 36 PA1/~{POE1}/TXD0 (io), 38 PA0/~{POE0}/RXD0 (io), 39 ~{RES} (in), 40 ~{WDTOVF} (out), 41 XTAL (in), 42 EXTAL (in), 43 ~{ASEMD0} (in), 44 NMI (in), 45 FWE/~{ASEBRK}/~{ASEBRKAK}, 46 MD1 (in), 48 PB5/IRQ3/TIC5U (io), 49 PB3/IRQ1/~{POE1}/TIC5V (io), 50 PB2/IRQ0/~{POE0} (io), 51 PB1/TIC5W (io), 53 PF7/AN7 (io), 54 PF6/AN6 (io), 55 PF5/AN5 (io), 56 PF4/AN4 (io), 57 PF3/AN3 (io), 58 PF2/AN2 (io), 59 PF1/AN1 (io), 60 PF0/AN0 (io), 62 PB16/~{POE3} (io), 63 PE15/TIOC4D/~{IRQOUT} (io), 64 PE14/TIOC4C (io)
part B pins: 4 VCC (power), 8 VCL, 22 VCC (power), 35 VCC (power), 37 VCL, 61 AVCC (power)
part C pins: 6 VSS (power), 24 VSS (power), 33 VSS (power), 47 PLLVSS (power), 52 AVSS (power)

## R5F71250AN50NP
designator U?
32-Bit RISC Microcomputer, SH7125 Series, SH-2 core, 50MHz, 16K ROM, 4K RAM, PVQN0064LB-A (TNP-64BV) Package, -20 to 85°C; Published: 28-Aug-2009; DatasheetVersion: Rev.5.00, Mar-2009; PackageVersion: Jun-2008; PackageReference: PVQN0064LB-A; Publisher: Altium Limited; PackageDescription: 64-Pin Plastic Very Thin QFN, 8 x 8 X 0.89 mm Body, 0.4 mm Pitch; Code_JEITA: P-VQFN64-8x8-0.40; ComponentLink1Description: Manufacturer Link; ComponentLink1URL: http://www.renesas.com/fmwk.jsp?cnt=sh7125_root.jsp&fp=/products/mpumcu/superh_family/shtiny_series/sh7125_group/; ComponentLink2Description: Datasheet; ComponentLink2URL: http://documentation.renesas.com/eng/products/mpumcu/rej09b0243_sh7125_7124hm.pdf; ComponentLink3Description: Packaging Specification; ComponentLink3URL: http://sg.renesas.com/media/products/common_info/package/pdf/ic/code/pvqn0064lb_a.pdf
footprint PVQN0064LB-A_N (QFN, 64-Leads, Body 8x8 mm, Pitch 0.4mm, IPC Medium Density)
footprint PVQN0064LB-A_L (QFN, 64-Leads, Body 8x8 mm, Pitch 0.4mm, IPC High Density)
footprint PVQN0064LB-A_M (QFN, 64-Leads, Body 8x8 mm, Pitch 0.4mm, IPC Low Density)
part A pins: 1 PE13/TIOC4B/~{MRES} (io), 2 PE12/TIOC4A (io), 3 PE11/TIOC3D (io), 5 PE9/TIOC3B (io), 7 PE10/TIOC3C (io), 9 PE8/TIOC3A (io), 10 PE7/TIOC2B (io), 11 PE6/TIOC2A/SCK1 (io), 12 PE5/TIOC1B/TXD1 (io), 13 PE4/TIOC1A/RXD1 (io), 14 PE3/TIOC0D/SCK0 (io), 15 PE2/TIOC0C/TXD0 (io), 16 PE1/TIOC0B/RXD0 (io), 17 PE0/TIOC0A (io), 18 PA15/TXD1 (io), 19 PA14/RXD1 (io), 20 PA13/SCK1 (io), 21 PA12/SCK0 (io), 23 PA11/TXD0/~{ADTRG} (io), 25 PA10/RXD0 (io), 26 PA9/TCLKD/TXD2/TDO/~{POE8} (io), 27 PA8/TCLKC/RXD2/TDI (io), 28 PA7/TCLKB/SCK2/TCK (io), 29 PA6/TCLKA (io), 30 PA5/IRQ3/SCK1 (io), 31 PA4/IRQ2/TXD1/TMS (io), 32 PA3/IRQ1/RXD1/~{TRST} (io), 34 PA2/IRQ0/SCK0 (io), 36 PA1/~{POE1}/TXD0 (io), 38 PA0/~{POE0}/RXD0 (io), 39 ~{RES} (in), 40 ~{WDTOVF} (out), 41 XTAL (in), 42 EXTAL (in), 43 ~{ASEMD0} (in), 44 NMI (in), 45 FWE/~{ASEBRK}/~{ASEBRKAK}, 46 MD1 (in), 48 PB5/IRQ3/TIC5U (io), 49 PB3/IRQ1/~{POE1}/TIC5V (io), 50 PB2/IRQ0/~{POE0} (io), 51 PB1/TIC5W (io), 53 PF7/AN7 (io), 54 PF6/AN6 (io), 55 PF5/AN5 (io), 56 PF4/AN4 (io), 57 PF3/AN3 (io), 58 PF2/AN2 (io), 59 PF1/AN1 (io), 60 PF0/AN0 (io), 62 PB16/~{POE3} (io), 63 PB15/TIOC4D/~{IRQOUT} (io), 64 PE14/TIOC4C (io)
part B pins: 4 VCC (power), 8 VCL, 22 VCC (power), 35 VCC (power), 37 VCL, 61 AVCC (power)
part C pins: 6 VSS (power), 24 VSS (power), 33 VSS (power), 47 PLLVSS (power), 52 AVSS (power)

## R5F71251AD50FA
designator U?
32-Bit RISC Microcomputer, SH7125 Series, SH-2 core, 50MHz, 32K ROM, 8K RAM, PRQP0064GC-A (FP-64HV) Package, -40 to 85°C; Published: 28-Aug-2009; DatasheetVersion: Rev.5.00, Mar-2009; PackageVersion: Sep-2005; PackageReference: PRQP0064GC-A; Publisher: Altium Limited; PackageDescription: 64-Pin Plastic Quad Flat Pack, 14 x 14 x 2.7 mm Body, 0.8 mm Pitch; Code_JEITA: P-QFP64-14x14-0.80; ComponentLink1Description: Manufacturer Link; ComponentLink1URL: http://www.renesas.com/fmwk.jsp?cnt=sh7125_root.jsp&fp=/products/mpumcu/superh_family/shtiny_series/sh7125_group/; ComponentLink2Description: Datasheet; ComponentLink2URL: http://documentation.renesas.com/eng/products/mpumcu/rej09b0243_sh7125_7124hm.pdf; ComponentLink3Description: Packaging Specification; ComponentLink3URL: http://sg.renesas.com/media/products/common_info/package/pdf/ic/code/prqp0064gc_a.pdf
footprint PRQP0064GC-A_N (QFP, 64-Leads, Body 14x14mm, Pitch 0.8mm, IPC Medium Density)
footprint PRQP0064GC-A_L (QFP, 64-Leads, Body 14x14mm, Pitch 0.8mm, IPC High Density)
footprint PRQP0064GC-A_M (QFP, 64-Leads, Body 14x14mm, Pitch 0.8mm, IPC Low Density)
part A pins: 1 PE13/TIOC4B/~{MRES} (io), 2 PE12/TIOC4A (io), 3 PE11/TIOC3D (io), 5 PE9/TIOC3B (io), 7 PE10/TIOC3C (io), 9 PE8/TIOC3A (io), 10 PE7/TIOC2B (io), 11 PE6/TIOC2A/SCK1 (io), 12 PE5/TIOC1B/TXD1 (io), 13 PE4/TIOC1A/RXD1 (io), 14 PE3/TIOC0D/SCK0 (io), 15 PE2/TIOC0C/TXD0 (io), 16 PE1/TIOC0B/RXD0 (io), 17 PE0/TIOC0A (io), 18 PA15/TXD1 (io), 19 PA14/RXD1 (io), 20 PA13/SCK1 (io), 21 PA12/SCK0 (io), 23 PA11/TXD0/~{ADTRG} (io), 25 PA10/RXD0 (io), 26 PA9/TCLKD/TXD2/TDO/~{POE8} (io), 27 PA8/TCLKC/RXD2/TDI (io), 28 PA7/TCLKB/SCK2/TCK (io), 29 PA6/TCLKA (io), 30 PA5/IRQ3/SCK1 (io), 31 PA4/IRQ2/TXD1/TMS (io), 32 PA3/IRQ1/RXD1/~{TRST} (io), 34 PA2/IRQ0/SCK0 (io), 36 PA1/~{POE1}/TXD0 (io), 38 PA0/~{POE0}/RXD0 (io), 39 ~{RES} (in), 40 ~{WDTOVF} (out), 41 XTAL (in), 42 EXTAL (in), 43 ~{ASEMD0} (in), 44 NMI (in), 45 FWE/~{ASEBRK}/~{ASEBRKAK}, 46 MD1 (in), 48 PB5/IRQ3/TIC5U (io), 49 PB3/IRQ1/~{POE1}/TIC5V (io), 50 PB2/IRQ0/~{POE0} (io), 51 PB1/TIC5W (io), 53 PF7/AN7 (io), 54 PF6/AN6 (io), 55 PF5/AN5 (io), 56 PF4/AN4 (io), 57 PF3/AN3 (io), 58 PF2/AN2 (io), 59 PF1/AN1 (io), 60 PF0/AN0 (io), 62 PB16/~{POE3} (io), 63 PE15/TIOC4D/~{IRQOUT} (io), 64 PE14/TIOC4C (io)
part B pins: 4 VCC (power), 8 VCL, 22 VCC (power), 35 VCC (power), 37 VCL, 61 AVCC (power)
part C pins: 6 VSS (power), 24 VSS (power), 33 VSS (power), 47 PLLVSS (power), 52 AVSS (power)

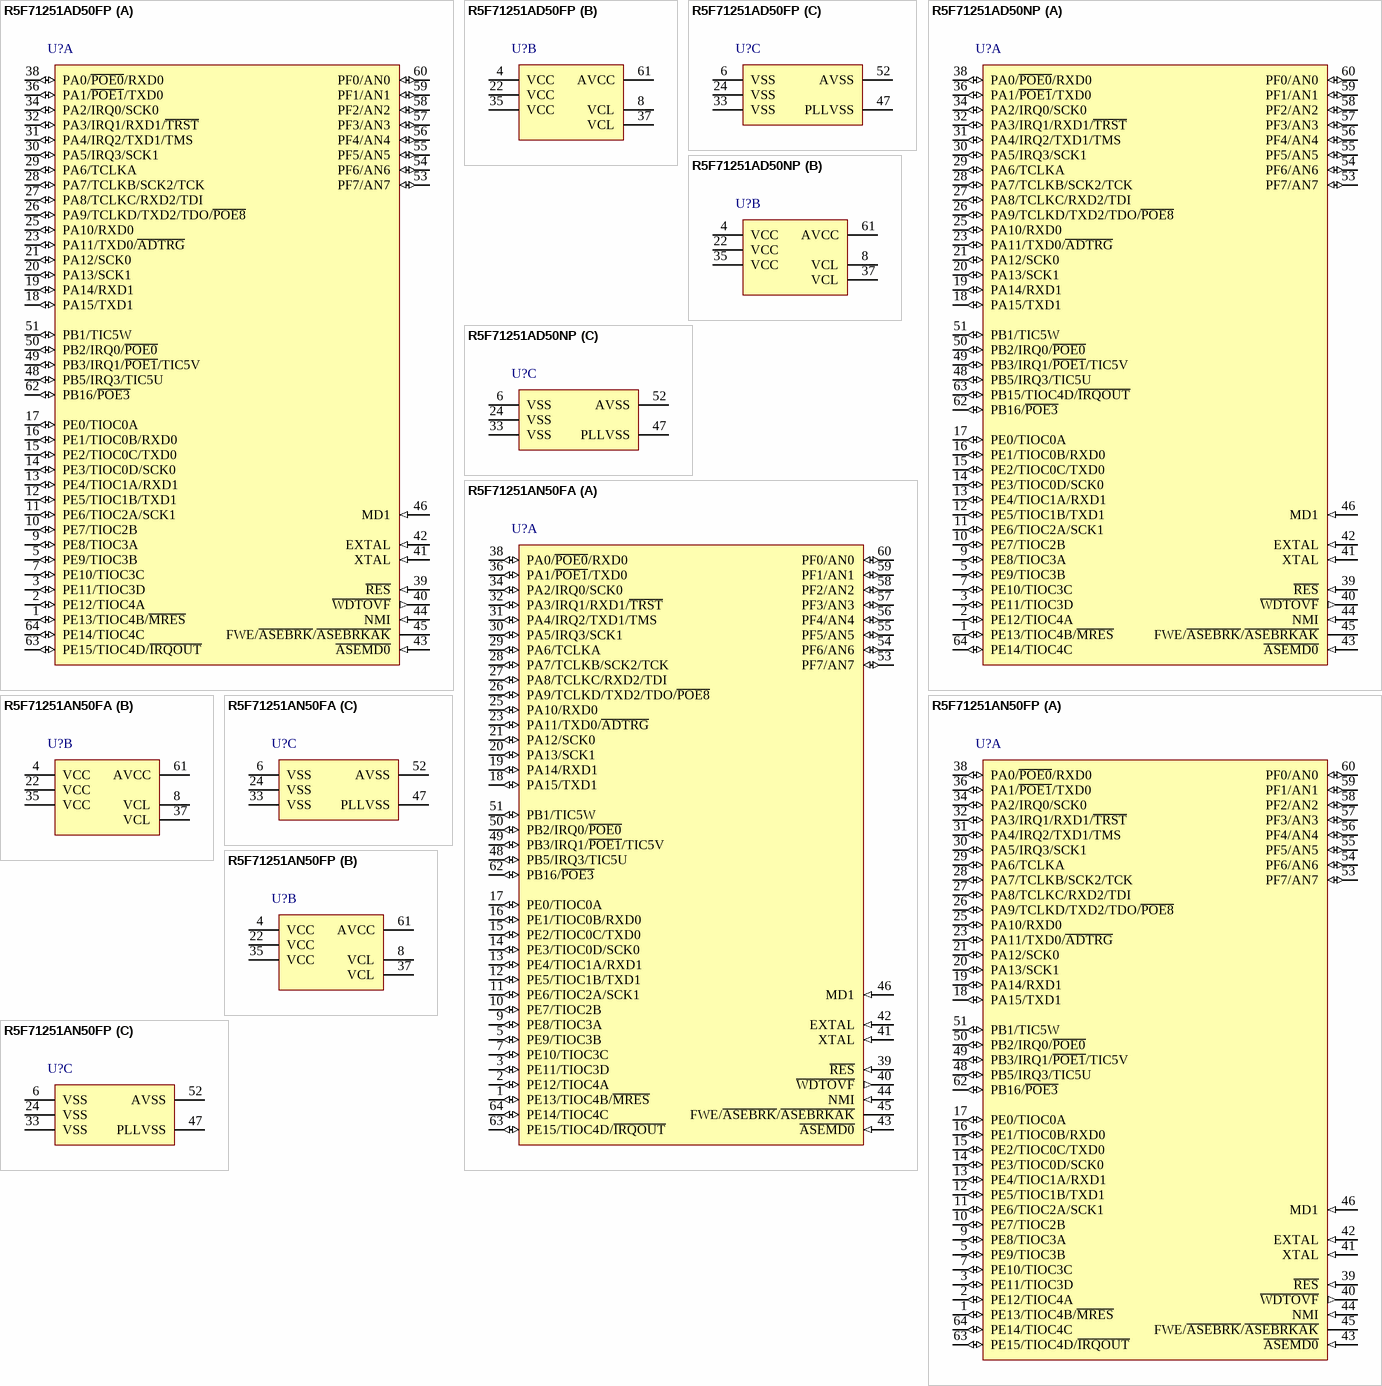
[diagram p144: symbols R5F71251AD50FP to R5F71251AN50FP]

## R5F71251AD50FP
designator U?
32-Bit RISC Microcomputer, SH7125 Series, SH-2 core, 50MHz, 32K ROM, 8K RAM, PLQP0064KB-A (FP-64K) Package, -40 to 85°C; Published: 28-Aug-2009; DatasheetVersion: Rev.5.00, Mar-2009; PackageVersion: Sep-2005; PackageReference: PLQP0064KB-A; Publisher: Altium Limited; PackageDescription: 64-Pin Plastic Low Profile QFP, 10 x 10 x 1.4 mm Body, 0.5 mm Pitch; Code_JEITA: P-LQFP64-10x10-0.50; Code_IPC: SQFP50P1200X1200-64; ComponentLink1Description: Manufacturer Link; ComponentLink1URL: http://www.renesas.com/fmwk.jsp?cnt=sh7125_root.jsp&fp=/products/mpumcu/superh_family/shtiny_series/sh7125_group/; ComponentLink2Description: Datasheet; ComponentLink2URL: http://documentation.renesas.com/eng/products/mpumcu/rej09b0243_sh7125_7124hm.pdf; ComponentLink3Description: Packaging Specification; ComponentLink3URL: http://sg.renesas.com/media/products/common_info/package/pdf/ic/code/plqp0064kb_a.pdf
footprint PLQP0064KB-A_N (Shrink QFP, 64-Leads, Body 10x10mm, Pitch 0.5mm, IPC Medium Density)
footprint PLQP0064KB-A_L (Shrink QFP, 64-Leads, Body 10x10mm, Pitch 0.5mm, IPC High Density)
footprint PLQP0064KB-A_M (Shrink QFP, 64-Leads, Body 10x10mm, Pitch 0.5mm, IPC Low Density)
part A pins: 1 PE13/TIOC4B/~{MRES} (io), 2 PE12/TIOC4A (io), 3 PE11/TIOC3D (io), 5 PE9/TIOC3B (io), 7 PE10/TIOC3C (io), 9 PE8/TIOC3A (io), 10 PE7/TIOC2B (io), 11 PE6/TIOC2A/SCK1 (io), 12 PE5/TIOC1B/TXD1 (io), 13 PE4/TIOC1A/RXD1 (io), 14 PE3/TIOC0D/SCK0 (io), 15 PE2/TIOC0C/TXD0 (io), 16 PE1/TIOC0B/RXD0 (io), 17 PE0/TIOC0A (io), 18 PA15/TXD1 (io), 19 PA14/RXD1 (io), 20 PA13/SCK1 (io), 21 PA12/SCK0 (io), 23 PA11/TXD0/~{ADTRG} (io), 25 PA10/RXD0 (io), 26 PA9/TCLKD/TXD2/TDO/~{POE8} (io), 27 PA8/TCLKC/RXD2/TDI (io), 28 PA7/TCLKB/SCK2/TCK (io), 29 PA6/TCLKA (io), 30 PA5/IRQ3/SCK1 (io), 31 PA4/IRQ2/TXD1/TMS (io), 32 PA3/IRQ1/RXD1/~{TRST} (io), 34 PA2/IRQ0/SCK0 (io), 36 PA1/~{POE1}/TXD0 (io), 38 PA0/~{POE0}/RXD0 (io), 39 ~{RES} (in), 40 ~{WDTOVF} (out), 41 XTAL (in), 42 EXTAL (in), 43 ~{ASEMD0} (in), 44 NMI (in), 45 FWE/~{ASEBRK}/~{ASEBRKAK}, 46 MD1 (in), 48 PB5/IRQ3/TIC5U (io), 49 PB3/IRQ1/~{POE1}/TIC5V (io), 50 PB2/IRQ0/~{POE0} (io), 51 PB1/TIC5W (io), 53 PF7/AN7 (io), 54 PF6/AN6 (io), 55 PF5/AN5 (io), 56 PF4/AN4 (io), 57 PF3/AN3 (io), 58 PF2/AN2 (io), 59 PF1/AN1 (io), 60 PF0/AN0 (io), 62 PB16/~{POE3} (io), 63 PE15/TIOC4D/~{IRQOUT} (io), 64 PE14/TIOC4C (io)
part B pins: 4 VCC (power), 8 VCL, 22 VCC (power), 35 VCC (power), 37 VCL, 61 AVCC (power)
part C pins: 6 VSS (power), 24 VSS (power), 33 VSS (power), 47 PLLVSS (power), 52 AVSS (power)

## R5F71251AD50NP
designator U?
32-Bit RISC Microcomputer, SH7125 Series, SH-2 core, 50MHz, 32K ROM, 8K RAM, PVQN0064LB-A (TNP-64BV) Package, -40 to 85°C; Published: 28-Aug-2009; DatasheetVersion: Rev.5.00, Mar-2009; PackageVersion: Jun-2008; PackageReference: PVQN0064LB-A; Publisher: Altium Limited; PackageDescription: 64-Pin Plastic Very Thin QFN, 8 x 8 X 0.89 mm Body, 0.4 mm Pitch; Code_JEITA: P-VQFN64-8x8-0.40; ComponentLink1Description: Manufacturer Link; ComponentLink1URL: http://www.renesas.com/fmwk.jsp?cnt=sh7125_root.jsp&fp=/products/mpumcu/superh_family/shtiny_series/sh7125_group/; ComponentLink2Description: Datasheet; ComponentLink2URL: http://documentation.renesas.com/eng/products/mpumcu/rej09b0243_sh7125_7124hm.pdf; ComponentLink3Description: Packaging Specification; ComponentLink3URL: http://sg.renesas.com/media/products/common_info/package/pdf/ic/code/pvqn0064lb_a.pdf
footprint PVQN0064LB-A_N (QFN, 64-Leads, Body 8x8 mm, Pitch 0.4mm, IPC Medium Density)
footprint PVQN0064LB-A_L (QFN, 64-Leads, Body 8x8 mm, Pitch 0.4mm, IPC High Density)
footprint PVQN0064LB-A_M (QFN, 64-Leads, Body 8x8 mm, Pitch 0.4mm, IPC Low Density)
part A pins: 1 PE13/TIOC4B/~{MRES} (io), 2 PE12/TIOC4A (io), 3 PE11/TIOC3D (io), 5 PE9/TIOC3B (io), 7 PE10/TIOC3C (io), 9 PE8/TIOC3A (io), 10 PE7/TIOC2B (io), 11 PE6/TIOC2A/SCK1 (io), 12 PE5/TIOC1B/TXD1 (io), 13 PE4/TIOC1A/RXD1 (io), 14 PE3/TIOC0D/SCK0 (io), 15 PE2/TIOC0C/TXD0 (io), 16 PE1/TIOC0B/RXD0 (io), 17 PE0/TIOC0A (io), 18 PA15/TXD1 (io), 19 PA14/RXD1 (io), 20 PA13/SCK1 (io), 21 PA12/SCK0 (io), 23 PA11/TXD0/~{ADTRG} (io), 25 PA10/RXD0 (io), 26 PA9/TCLKD/TXD2/TDO/~{POE8} (io), 27 PA8/TCLKC/RXD2/TDI (io), 28 PA7/TCLKB/SCK2/TCK (io), 29 PA6/TCLKA (io), 30 PA5/IRQ3/SCK1 (io), 31 PA4/IRQ2/TXD1/TMS (io), 32 PA3/IRQ1/RXD1/~{TRST} (io), 34 PA2/IRQ0/SCK0 (io), 36 PA1/~{POE1}/TXD0 (io), 38 PA0/~{POE0}/RXD0 (io), 39 ~{RES} (in), 40 ~{WDTOVF} (out), 41 XTAL (in), 42 EXTAL (in), 43 ~{ASEMD0} (in), 44 NMI (in), 45 FWE/~{ASEBRK}/~{ASEBRKAK}, 46 MD1 (in), 48 PB5/IRQ3/TIC5U (io), 49 PB3/IRQ1/~{POE1}/TIC5V (io), 50 PB2/IRQ0/~{POE0} (io), 51 PB1/TIC5W (io), 53 PF7/AN7 (io), 54 PF6/AN6 (io), 55 PF5/AN5 (io), 56 PF4/AN4 (io), 57 PF3/AN3 (io), 58 PF2/AN2 (io), 59 PF1/AN1 (io), 60 PF0/AN0 (io), 62 PB16/~{POE3} (io), 63 PB15/TIOC4D/~{IRQOUT} (io), 64 PE14/TIOC4C (io)
part B pins: 4 VCC (power), 8 VCL, 22 VCC (power), 35 VCC (power), 37 VCL, 61 AVCC (power)
part C pins: 6 VSS (power), 24 VSS (power), 33 VSS (power), 47 PLLVSS (power), 52 AVSS (power)

## R5F71251AN50FA
designator U?
32-Bit RISC Microcomputer, SH7125 Series, SH-2 core, 50MHz, 32K ROM, 8K RAM, PRQP0064GC-A (FP-64HV) Package, -20 to 85°C; Published: 28-Aug-2009; DatasheetVersion: Rev.5.00, Mar-2009; PackageVersion: Sep-2005; PackageReference: PRQP0064GC-A; Publisher: Altium Limited; PackageDescription: 64-Pin Plastic Quad Flat Pack, 14 x 14 x 2.7 mm Body, 0.8 mm Pitch; Code_JEITA: P-QFP64-14x14-0.80; ComponentLink1Description: Manufacturer Link; ComponentLink1URL: http://www.renesas.com/fmwk.jsp?cnt=sh7125_root.jsp&fp=/products/mpumcu/superh_family/shtiny_series/sh7125_group/; ComponentLink2Description: Datasheet; ComponentLink2URL: http://documentation.renesas.com/eng/products/mpumcu/rej09b0243_sh7125_7124hm.pdf; ComponentLink3Description: Packaging Specification; ComponentLink3URL: http://sg.renesas.com/media/products/common_info/package/pdf/ic/code/prqp0064gc_a.pdf
footprint PRQP0064GC-A_N (QFP, 64-Leads, Body 14x14mm, Pitch 0.8mm, IPC Medium Density)
footprint PRQP0064GC-A_L (QFP, 64-Leads, Body 14x14mm, Pitch 0.8mm, IPC High Density)
footprint PRQP0064GC-A_M (QFP, 64-Leads, Body 14x14mm, Pitch 0.8mm, IPC Low Density)
part A pins: 1 PE13/TIOC4B/~{MRES} (io), 2 PE12/TIOC4A (io), 3 PE11/TIOC3D (io), 5 PE9/TIOC3B (io), 7 PE10/TIOC3C (io), 9 PE8/TIOC3A (io), 10 PE7/TIOC2B (io), 11 PE6/TIOC2A/SCK1 (io), 12 PE5/TIOC1B/TXD1 (io), 13 PE4/TIOC1A/RXD1 (io), 14 PE3/TIOC0D/SCK0 (io), 15 PE2/TIOC0C/TXD0 (io), 16 PE1/TIOC0B/RXD0 (io), 17 PE0/TIOC0A (io), 18 PA15/TXD1 (io), 19 PA14/RXD1 (io), 20 PA13/SCK1 (io), 21 PA12/SCK0 (io), 23 PA11/TXD0/~{ADTRG} (io), 25 PA10/RXD0 (io), 26 PA9/TCLKD/TXD2/TDO/~{POE8} (io), 27 PA8/TCLKC/RXD2/TDI (io), 28 PA7/TCLKB/SCK2/TCK (io), 29 PA6/TCLKA (io), 30 PA5/IRQ3/SCK1 (io), 31 PA4/IRQ2/TXD1/TMS (io), 32 PA3/IRQ1/RXD1/~{TRST} (io), 34 PA2/IRQ0/SCK0 (io), 36 PA1/~{POE1}/TXD0 (io), 38 PA0/~{POE0}/RXD0 (io), 39 ~{RES} (in), 40 ~{WDTOVF} (out), 41 XTAL (in), 42 EXTAL (in), 43 ~{ASEMD0} (in), 44 NMI (in), 45 FWE/~{ASEBRK}/~{ASEBRKAK}, 46 MD1 (in), 48 PB5/IRQ3/TIC5U (io), 49 PB3/IRQ1/~{POE1}/TIC5V (io), 50 PB2/IRQ0/~{POE0} (io), 51 PB1/TIC5W (io), 53 PF7/AN7 (io), 54 PF6/AN6 (io), 55 PF5/AN5 (io), 56 PF4/AN4 (io), 57 PF3/AN3 (io), 58 PF2/AN2 (io), 59 PF1/AN1 (io), 60 PF0/AN0 (io), 62 PB16/~{POE3} (io), 63 PE15/TIOC4D/~{IRQOUT} (io), 64 PE14/TIOC4C (io)
part B pins: 4 VCC (power), 8 VCL, 22 VCC (power), 35 VCC (power), 37 VCL, 61 AVCC (power)
part C pins: 6 VSS (power), 24 VSS (power), 33 VSS (power), 47 PLLVSS (power), 52 AVSS (power)

## R5F71251AN50FP
designator U?
32-Bit RISC Microcomputer, SH7125 Series, SH-2 core, 50MHz, 32K ROM, 8K RAM, PLQP0064KB-A (FP-64K) Package, -20 to 85°C; Published: 28-Aug-2009; DatasheetVersion: Rev.5.00, Mar-2009; PackageVersion: Sep-2005; PackageReference: PLQP0064KB-A; Publisher: Altium Limited; PackageDescription: 64-Pin Plastic Low Profile QFP, 10 x 10 x 1.4 mm Body, 0.5 mm Pitch; Code_JEITA: P-LQFP64-10x10-0.50; Code_IPC: SQFP50P1200X1200-64; ComponentLink1Description: Manufacturer Link; ComponentLink1URL: http://www.renesas.com/fmwk.jsp?cnt=sh7125_root.jsp&fp=/products/mpumcu/superh_family/shtiny_series/sh7125_group/; ComponentLink2Description: Datasheet; ComponentLink2URL: http://documentation.renesas.com/eng/products/mpumcu/rej09b0243_sh7125_7124hm.pdf; ComponentLink3Description: Packaging Specification; ComponentLink3URL: http://sg.renesas.com/media/products/common_info/package/pdf/ic/code/plqp0064kb_a.pdf
footprint PLQP0064KB-A_N (Shrink QFP, 64-Leads, Body 10x10mm, Pitch 0.5mm, IPC Medium Density)
footprint PLQP0064KB-A_L (Shrink QFP, 64-Leads, Body 10x10mm, Pitch 0.5mm, IPC High Density)
footprint PLQP0064KB-A_M (Shrink QFP, 64-Leads, Body 10x10mm, Pitch 0.5mm, IPC Low Density)
part A pins: 1 PE13/TIOC4B/~{MRES} (io), 2 PE12/TIOC4A (io), 3 PE11/TIOC3D (io), 5 PE9/TIOC3B (io), 7 PE10/TIOC3C (io), 9 PE8/TIOC3A (io), 10 PE7/TIOC2B (io), 11 PE6/TIOC2A/SCK1 (io), 12 PE5/TIOC1B/TXD1 (io), 13 PE4/TIOC1A/RXD1 (io), 14 PE3/TIOC0D/SCK0 (io), 15 PE2/TIOC0C/TXD0 (io), 16 PE1/TIOC0B/RXD0 (io), 17 PE0/TIOC0A (io), 18 PA15/TXD1 (io), 19 PA14/RXD1 (io), 20 PA13/SCK1 (io), 21 PA12/SCK0 (io), 23 PA11/TXD0/~{ADTRG} (io), 25 PA10/RXD0 (io), 26 PA9/TCLKD/TXD2/TDO/~{POE8} (io), 27 PA8/TCLKC/RXD2/TDI (io), 28 PA7/TCLKB/SCK2/TCK (io), 29 PA6/TCLKA (io), 30 PA5/IRQ3/SCK1 (io), 31 PA4/IRQ2/TXD1/TMS (io), 32 PA3/IRQ1/RXD1/~{TRST} (io), 34 PA2/IRQ0/SCK0 (io), 36 PA1/~{POE1}/TXD0 (io), 38 PA0/~{POE0}/RXD0 (io), 39 ~{RES} (in), 40 ~{WDTOVF} (out), 41 XTAL (in), 42 EXTAL (in), 43 ~{ASEMD0} (in), 44 NMI (in), 45 FWE/~{ASEBRK}/~{ASEBRKAK}, 46 MD1 (in), 48 PB5/IRQ3/TIC5U (io), 49 PB3/IRQ1/~{POE1}/TIC5V (io), 50 PB2/IRQ0/~{POE0} (io), 51 PB1/TIC5W (io), 53 PF7/AN7 (io), 54 PF6/AN6 (io), 55 PF5/AN5 (io), 56 PF4/AN4 (io), 57 PF3/AN3 (io), 58 PF2/AN2 (io), 59 PF1/AN1 (io), 60 PF0/AN0 (io), 62 PB16/~{POE3} (io), 63 PE15/TIOC4D/~{IRQOUT} (io), 64 PE14/TIOC4C (io)
part B pins: 4 VCC (power), 8 VCL, 22 VCC (power), 35 VCC (power), 37 VCL, 61 AVCC (power)
part C pins: 6 VSS (power), 24 VSS (power), 33 VSS (power), 47 PLLVSS (power), 52 AVSS (power)

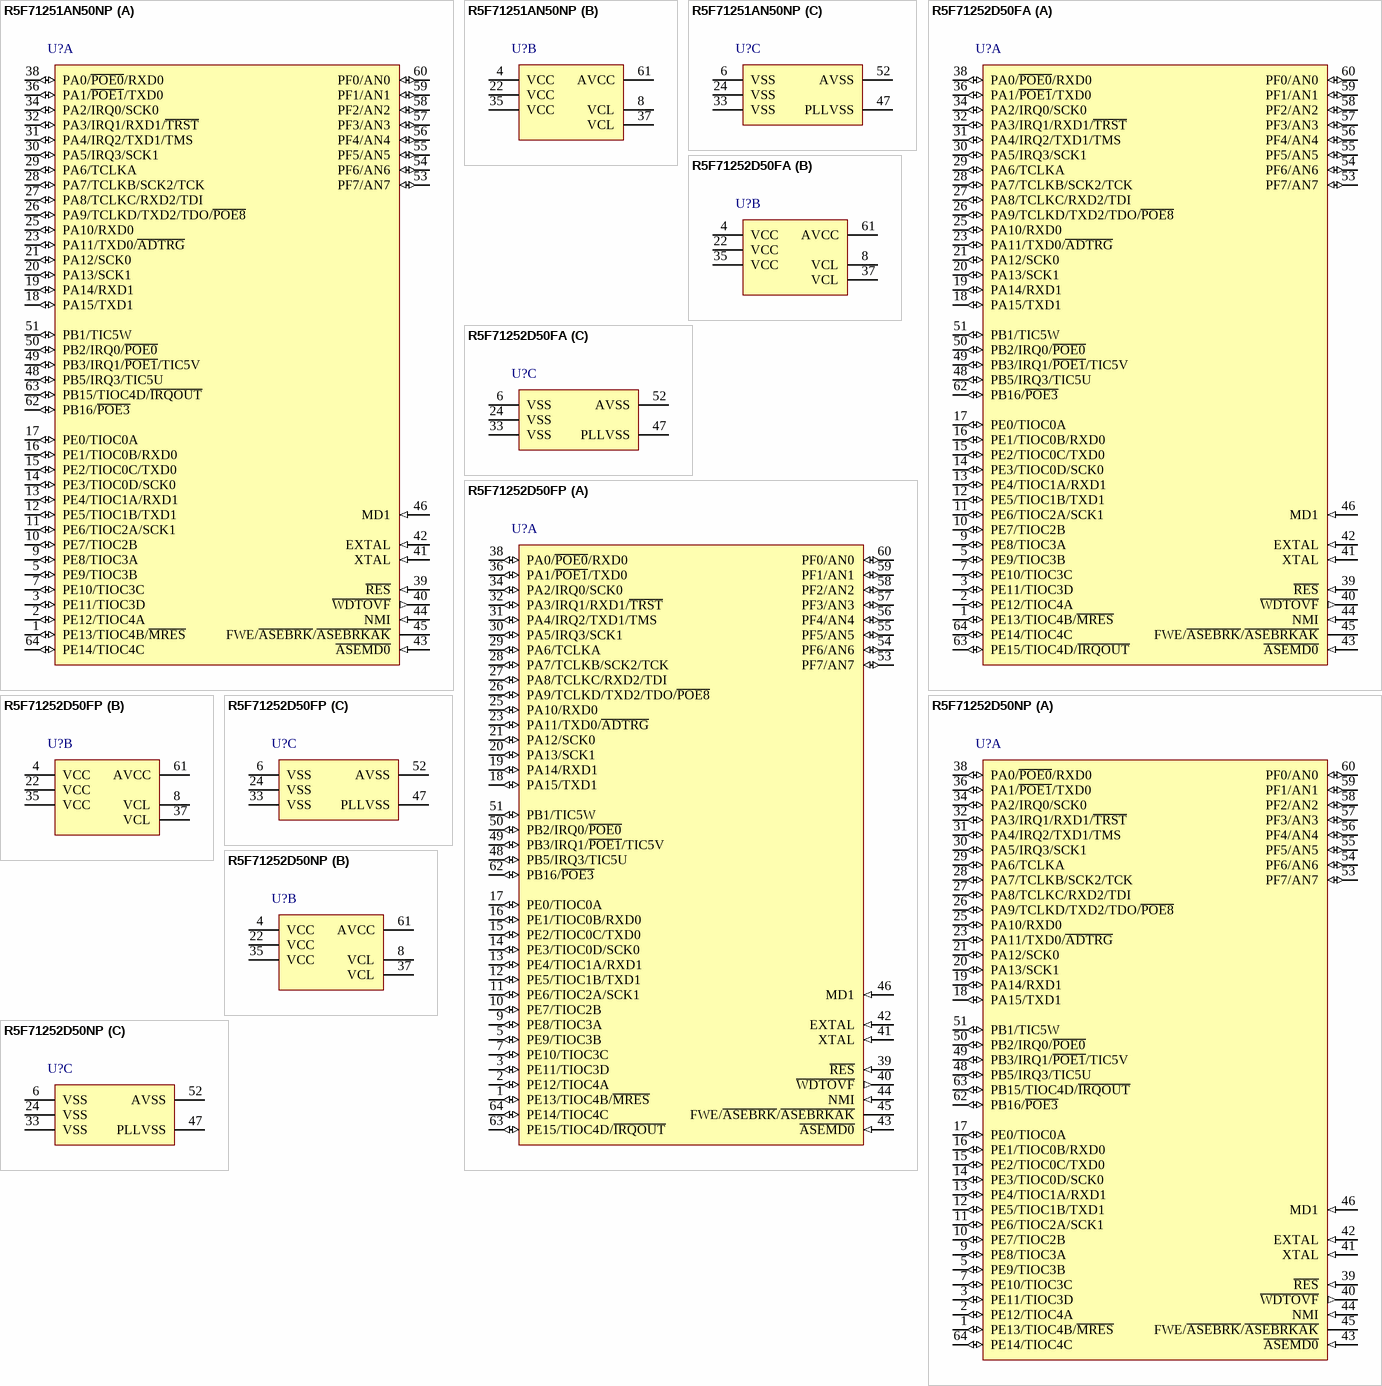
[diagram p145: symbols R5F71251AN50NP to R5F71252D50NP]

## R5F71251AN50NP
designator U?
32-Bit RISC Microcomputer, SH7125 Series, SH-2 core, 50MHz, 32K ROM, 8K RAM, PVQN0064LB-A (TNP-64BV) Package, -20 to 85°C; Published: 28-Aug-2009; DatasheetVersion: Rev.5.00, Mar-2009; PackageVersion: Jun-2008; PackageReference: PVQN0064LB-A; Publisher: Altium Limited; PackageDescription: 64-Pin Plastic Very Thin QFN, 8 x 8 X 0.89 mm Body, 0.4 mm Pitch; Code_JEITA: P-VQFN64-8x8-0.40; ComponentLink1Description: Manufacturer Link; ComponentLink1URL: http://www.renesas.com/fmwk.jsp?cnt=sh7125_root.jsp&fp=/products/mpumcu/superh_family/shtiny_series/sh7125_group/; ComponentLink2Description: Datasheet; ComponentLink2URL: http://documentation.renesas.com/eng/products/mpumcu/rej09b0243_sh7125_7124hm.pdf; ComponentLink3Description: Packaging Specification; ComponentLink3URL: http://sg.renesas.com/media/products/common_info/package/pdf/ic/code/pvqn0064lb_a.pdf
footprint PVQN0064LB-A_N (QFN, 64-Leads, Body 8x8 mm, Pitch 0.4mm, IPC Medium Density)
footprint PVQN0064LB-A_L (QFN, 64-Leads, Body 8x8 mm, Pitch 0.4mm, IPC High Density)
footprint PVQN0064LB-A_M (QFN, 64-Leads, Body 8x8 mm, Pitch 0.4mm, IPC Low Density)
part A pins: 1 PE13/TIOC4B/~{MRES} (io), 2 PE12/TIOC4A (io), 3 PE11/TIOC3D (io), 5 PE9/TIOC3B (io), 7 PE10/TIOC3C (io), 9 PE8/TIOC3A (io), 10 PE7/TIOC2B (io), 11 PE6/TIOC2A/SCK1 (io), 12 PE5/TIOC1B/TXD1 (io), 13 PE4/TIOC1A/RXD1 (io), 14 PE3/TIOC0D/SCK0 (io), 15 PE2/TIOC0C/TXD0 (io), 16 PE1/TIOC0B/RXD0 (io), 17 PE0/TIOC0A (io), 18 PA15/TXD1 (io), 19 PA14/RXD1 (io), 20 PA13/SCK1 (io), 21 PA12/SCK0 (io), 23 PA11/TXD0/~{ADTRG} (io), 25 PA10/RXD0 (io), 26 PA9/TCLKD/TXD2/TDO/~{POE8} (io), 27 PA8/TCLKC/RXD2/TDI (io), 28 PA7/TCLKB/SCK2/TCK (io), 29 PA6/TCLKA (io), 30 PA5/IRQ3/SCK1 (io), 31 PA4/IRQ2/TXD1/TMS (io), 32 PA3/IRQ1/RXD1/~{TRST} (io), 34 PA2/IRQ0/SCK0 (io), 36 PA1/~{POE1}/TXD0 (io), 38 PA0/~{POE0}/RXD0 (io), 39 ~{RES} (in), 40 ~{WDTOVF} (out), 41 XTAL (in), 42 EXTAL (in), 43 ~{ASEMD0} (in), 44 NMI (in), 45 FWE/~{ASEBRK}/~{ASEBRKAK}, 46 MD1 (in), 48 PB5/IRQ3/TIC5U (io), 49 PB3/IRQ1/~{POE1}/TIC5V (io), 50 PB2/IRQ0/~{POE0} (io), 51 PB1/TIC5W (io), 53 PF7/AN7 (io), 54 PF6/AN6 (io), 55 PF5/AN5 (io), 56 PF4/AN4 (io), 57 PF3/AN3 (io), 58 PF2/AN2 (io), 59 PF1/AN1 (io), 60 PF0/AN0 (io), 62 PB16/~{POE3} (io), 63 PB15/TIOC4D/~{IRQOUT} (io), 64 PE14/TIOC4C (io)
part B pins: 4 VCC (power), 8 VCL, 22 VCC (power), 35 VCC (power), 37 VCL, 61 AVCC (power)
part C pins: 6 VSS (power), 24 VSS (power), 33 VSS (power), 47 PLLVSS (power), 52 AVSS (power)

## R5F71252D50FA
designator U?
32-Bit RISC Microcomputer, SH7125 Series, SH-2 core, 50MHz, 64K ROM, 8K RAM, PRQP0064GC-A (FP-64HV) Package, -40 to 85°C; Published: 28-Aug-2009; DatasheetVersion: Rev.5.00, Mar-2009; PackageVersion: Sep-2005; PackageReference: PRQP0064GC-A; Publisher: Altium Limited; PackageDescription: 64-Pin Plastic Quad Flat Pack, 14 x 14 x 2.7 mm Body, 0.8 mm Pitch; Code_JEITA: P-QFP64-14x14-0.80; ComponentLink1Description: Manufacturer Link; ComponentLink1URL: http://www.renesas.com/fmwk.jsp?cnt=sh7125_root.jsp&fp=/products/mpumcu/superh_family/shtiny_series/sh7125_group/; ComponentLink2Description: Datasheet; ComponentLink2URL: http://documentation.renesas.com/eng/products/mpumcu/rej09b0243_sh7125_7124hm.pdf; ComponentLink3Description: Packaging Specification; ComponentLink3URL: http://sg.renesas.com/media/products/common_info/package/pdf/ic/code/prqp0064gc_a.pdf
footprint PRQP0064GC-A_N (QFP, 64-Leads, Body 14x14mm, Pitch 0.8mm, IPC Medium Density)
footprint PRQP0064GC-A_L (QFP, 64-Leads, Body 14x14mm, Pitch 0.8mm, IPC High Density)
footprint PRQP0064GC-A_M (QFP, 64-Leads, Body 14x14mm, Pitch 0.8mm, IPC Low Density)
part A pins: 1 PE13/TIOC4B/~{MRES} (io), 2 PE12/TIOC4A (io), 3 PE11/TIOC3D (io), 5 PE9/TIOC3B (io), 7 PE10/TIOC3C (io), 9 PE8/TIOC3A (io), 10 PE7/TIOC2B (io), 11 PE6/TIOC2A/SCK1 (io), 12 PE5/TIOC1B/TXD1 (io), 13 PE4/TIOC1A/RXD1 (io), 14 PE3/TIOC0D/SCK0 (io), 15 PE2/TIOC0C/TXD0 (io), 16 PE1/TIOC0B/RXD0 (io), 17 PE0/TIOC0A (io), 18 PA15/TXD1 (io), 19 PA14/RXD1 (io), 20 PA13/SCK1 (io), 21 PA12/SCK0 (io), 23 PA11/TXD0/~{ADTRG} (io), 25 PA10/RXD0 (io), 26 PA9/TCLKD/TXD2/TDO/~{POE8} (io), 27 PA8/TCLKC/RXD2/TDI (io), 28 PA7/TCLKB/SCK2/TCK (io), 29 PA6/TCLKA (io), 30 PA5/IRQ3/SCK1 (io), 31 PA4/IRQ2/TXD1/TMS (io), 32 PA3/IRQ1/RXD1/~{TRST} (io), 34 PA2/IRQ0/SCK0 (io), 36 PA1/~{POE1}/TXD0 (io), 38 PA0/~{POE0}/RXD0 (io), 39 ~{RES} (in), 40 ~{WDTOVF} (out), 41 XTAL (in), 42 EXTAL (in), 43 ~{ASEMD0} (in), 44 NMI (in), 45 FWE/~{ASEBRK}/~{ASEBRKAK}, 46 MD1 (in), 48 PB5/IRQ3/TIC5U (io), 49 PB3/IRQ1/~{POE1}/TIC5V (io), 50 PB2/IRQ0/~{POE0} (io), 51 PB1/TIC5W (io), 53 PF7/AN7 (io), 54 PF6/AN6 (io), 55 PF5/AN5 (io), 56 PF4/AN4 (io), 57 PF3/AN3 (io), 58 PF2/AN2 (io), 59 PF1/AN1 (io), 60 PF0/AN0 (io), 62 PB16/~{POE3} (io), 63 PE15/TIOC4D/~{IRQOUT} (io), 64 PE14/TIOC4C (io)
part B pins: 4 VCC (power), 8 VCL, 22 VCC (power), 35 VCC (power), 37 VCL, 61 AVCC (power)
part C pins: 6 VSS (power), 24 VSS (power), 33 VSS (power), 47 PLLVSS (power), 52 AVSS (power)